# Altium schematic symbol library MCU_NXP_Kinetis.SchLib: 155 symbols (part 1 of 5)
Pins are listed as number, name and electrical type; pins without a type are passive.

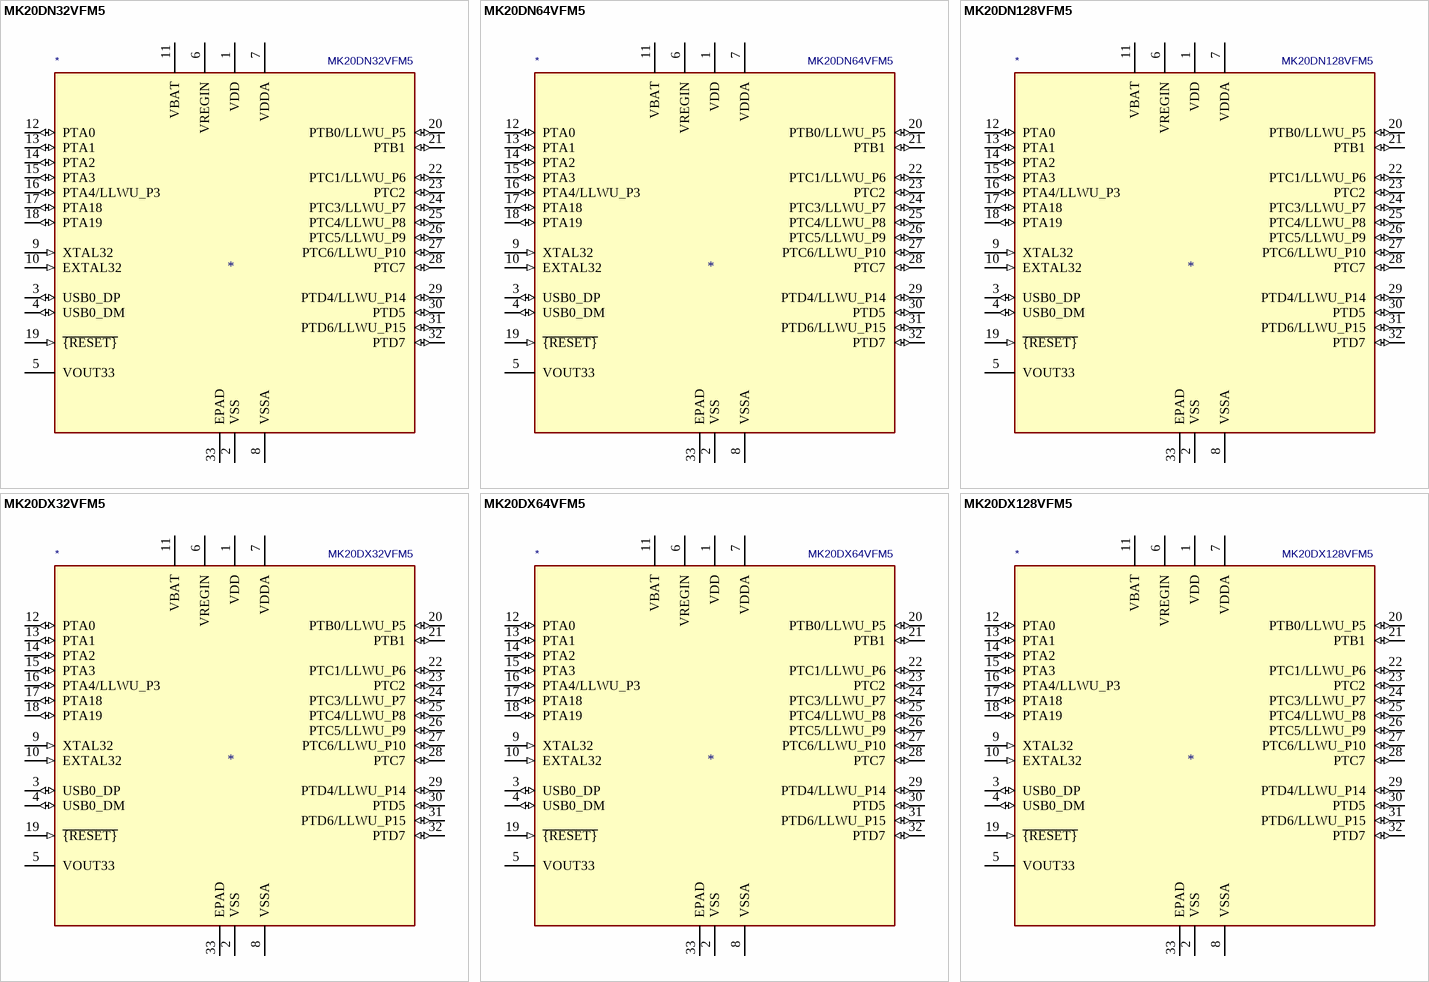
[diagram p0: symbols MK20DN32VFM5 to MK20DX128VFM5]

## MK20DN32VFM5
designator *  value MK20DN32VFM5
ki_keywords: Kinetis KL27 ARM Cortex M4; ki_description: Kinetis K20 series, 50-MHz/32-bit ARM Cortex-M4, 32 kB flash, 8 kB SRAM, USB FS Device/OTG, QFN-32; ki_fp_filters: QFN*5x5mm*P0.5mm*; Footprint: Package_DFN_QFN:QFN-32-1EP_5x5mm_P0.5mm_EP3.45x3.45mm; Supplier: http://www.nxp.com/docs/en/data-sheet/K20P32M50SF0.pdf
footprint QFN-32-1EP_5x5mm_P0.5mm_EP3.45x3.45mm
pins: 1 VDD (power), 2 VSS (power), 3 USB0_DP (io), 4 USB0_DM (io), 5 VOUT33 (power), 6 VREGIN (power), 7 VDDA (power), 8 VSSA (power), 9 XTAL32 (in), 10 EXTAL32 (in), 11 VBAT (power), 12 PTA0 (io), 13 PTA1 (io), 14 PTA2 (io), 15 PTA3 (io), 16 PTA4/LLWU_P3 (io), 17 PTA18 (io), 18 PTA19 (io), 19 ~{{RESET}} (in), 20 PTB0/LLWU_P5 (io), 21 PTB1 (io), 22 PTC1/LLWU_P6 (io), 23 PTC2 (io), 24 PTC3/LLWU_P7 (io), 25 PTC4/LLWU_P8 (io), 26 PTC5/LLWU_P9 (io), 27 PTC6/LLWU_P10 (io), 28 PTC7 (io), 29 PTD4/LLWU_P14 (io), 30 PTD5 (io), 31 PTD6/LLWU_P15 (io), 32 PTD7 (io), 33 EPAD (power)

## MK20DN64VFM5
designator *  value MK20DN64VFM5
ki_keywords: Kinetis KL27 ARM Cortex M4; ki_description: Kinetis K20 series, 50-MHz/32-bit ARM Cortex-M4, 64 kB flash, 16 kB SRAM, USB FS Device/OTG, QFN-32; ki_fp_filters: QFN*5x5mm*P0.5mm*; Footprint: Package_DFN_QFN:QFN-32-1EP_5x5mm_P0.5mm_EP3.45x3.45mm; Supplier: http://www.nxp.com/docs/en/data-sheet/K20P32M50SF0.pdf
footprint QFN-32-1EP_5x5mm_P0.5mm_EP3.45x3.45mm
pins: 1 VDD (power), 2 VSS (power), 3 USB0_DP (io), 4 USB0_DM (io), 5 VOUT33 (power), 6 VREGIN (power), 7 VDDA (power), 8 VSSA (power), 9 XTAL32 (in), 10 EXTAL32 (in), 11 VBAT (power), 12 PTA0 (io), 13 PTA1 (io), 14 PTA2 (io), 15 PTA3 (io), 16 PTA4/LLWU_P3 (io), 17 PTA18 (io), 18 PTA19 (io), 19 ~{{RESET}} (in), 20 PTB0/LLWU_P5 (io), 21 PTB1 (io), 22 PTC1/LLWU_P6 (io), 23 PTC2 (io), 24 PTC3/LLWU_P7 (io), 25 PTC4/LLWU_P8 (io), 26 PTC5/LLWU_P9 (io), 27 PTC6/LLWU_P10 (io), 28 PTC7 (io), 29 PTD4/LLWU_P14 (io), 30 PTD5 (io), 31 PTD6/LLWU_P15 (io), 32 PTD7 (io), 33 EPAD (power)

## MK20DN128VFM5
designator *  value MK20DN128VFM5
ki_keywords: Kinetis KL27 ARM Cortex M4; ki_description: Kinetis K20 series, 50-MHz/32-bit ARM Cortex-M4, 128 kB flash, 32 kB SRAM, USB FS Device/OTG, QFN-32; ki_fp_filters: QFN*5x5mm*P0.5mm*; Footprint: Package_DFN_QFN:QFN-32-1EP_5x5mm_P0.5mm_EP3.45x3.45mm; Supplier: http://www.nxp.com/docs/en/data-sheet/K20P32M50SF0.pdf
footprint QFN-32-1EP_5x5mm_P0.5mm_EP3.45x3.45mm
pins: 1 VDD (power), 2 VSS (power), 3 USB0_DP (io), 4 USB0_DM (io), 5 VOUT33 (power), 6 VREGIN (power), 7 VDDA (power), 8 VSSA (power), 9 XTAL32 (in), 10 EXTAL32 (in), 11 VBAT (power), 12 PTA0 (io), 13 PTA1 (io), 14 PTA2 (io), 15 PTA3 (io), 16 PTA4/LLWU_P3 (io), 17 PTA18 (io), 18 PTA19 (io), 19 ~{{RESET}} (in), 20 PTB0/LLWU_P5 (io), 21 PTB1 (io), 22 PTC1/LLWU_P6 (io), 23 PTC2 (io), 24 PTC3/LLWU_P7 (io), 25 PTC4/LLWU_P8 (io), 26 PTC5/LLWU_P9 (io), 27 PTC6/LLWU_P10 (io), 28 PTC7 (io), 29 PTD4/LLWU_P14 (io), 30 PTD5 (io), 31 PTD6/LLWU_P15 (io), 32 PTD7 (io), 33 EPAD (power)

## MK20DX32VFM5
designator *  value MK20DX32VFM5
ki_keywords: Kinetis KL27 ARM Cortex M4; ki_description: Kinetis K20 series, 50-MHz/32-bit ARM Cortex-M4, 32 kB flash/32 kB FlexNVM, 8 kB SRAM/2 kB FlexRAM, USB FS Device/OTG, QFN-32; ki_fp_filters: QFN*5x5mm*P0.5mm*; Footprint: Package_DFN_QFN:QFN-32-1EP_5x5mm_P0.5mm_EP3.45x3.45mm; Supplier: http://www.nxp.com/docs/en/data-sheet/K20P32M50SF0.pdf
footprint QFN-32-1EP_5x5mm_P0.5mm_EP3.45x3.45mm
pins: 1 VDD (power), 2 VSS (power), 3 USB0_DP (io), 4 USB0_DM (io), 5 VOUT33 (power), 6 VREGIN (power), 7 VDDA (power), 8 VSSA (power), 9 XTAL32 (in), 10 EXTAL32 (in), 11 VBAT (power), 12 PTA0 (io), 13 PTA1 (io), 14 PTA2 (io), 15 PTA3 (io), 16 PTA4/LLWU_P3 (io), 17 PTA18 (io), 18 PTA19 (io), 19 ~{{RESET}} (in), 20 PTB0/LLWU_P5 (io), 21 PTB1 (io), 22 PTC1/LLWU_P6 (io), 23 PTC2 (io), 24 PTC3/LLWU_P7 (io), 25 PTC4/LLWU_P8 (io), 26 PTC5/LLWU_P9 (io), 27 PTC6/LLWU_P10 (io), 28 PTC7 (io), 29 PTD4/LLWU_P14 (io), 30 PTD5 (io), 31 PTD6/LLWU_P15 (io), 32 PTD7 (io), 33 EPAD (power)

## MK20DX64VFM5
designator *  value MK20DX64VFM5
ki_keywords: Kinetis KL27 ARM Cortex M4; ki_description: Kinetis K20 series, 50-MHz/32-bit ARM Cortex-M4, 64 kB flash/32 kB FlexNVM, 16 kB SRAM/2 kB FlexRAM, USB FS Device/OTG, QFN-32; ki_fp_filters: QFN*5x5mm*P0.5mm*; Footprint: Package_DFN_QFN:QFN-32-1EP_5x5mm_P0.5mm_EP3.45x3.45mm; Supplier: http://www.nxp.com/docs/en/data-sheet/K20P32M50SF0.pdf
footprint QFN-32-1EP_5x5mm_P0.5mm_EP3.45x3.45mm
pins: 1 VDD (power), 2 VSS (power), 3 USB0_DP (io), 4 USB0_DM (io), 5 VOUT33 (power), 6 VREGIN (power), 7 VDDA (power), 8 VSSA (power), 9 XTAL32 (in), 10 EXTAL32 (in), 11 VBAT (power), 12 PTA0 (io), 13 PTA1 (io), 14 PTA2 (io), 15 PTA3 (io), 16 PTA4/LLWU_P3 (io), 17 PTA18 (io), 18 PTA19 (io), 19 ~{{RESET}} (in), 20 PTB0/LLWU_P5 (io), 21 PTB1 (io), 22 PTC1/LLWU_P6 (io), 23 PTC2 (io), 24 PTC3/LLWU_P7 (io), 25 PTC4/LLWU_P8 (io), 26 PTC5/LLWU_P9 (io), 27 PTC6/LLWU_P10 (io), 28 PTC7 (io), 29 PTD4/LLWU_P14 (io), 30 PTD5 (io), 31 PTD6/LLWU_P15 (io), 32 PTD7 (io), 33 EPAD (power)

## MK20DX128VFM5
designator *  value MK20DX128VFM5
ki_keywords: Kinetis KL27 ARM Cortex M4; ki_description: Kinetis K20 series, 50-MHz/32-bit ARM Cortex-M4, 128 kB flash/32 kB FlexNVM, 32 kB SRAM/2 kB FlexRAM, USB FS Device/OTG, QFN-32; ki_fp_filters: QFN*5x5mm*P0.5mm*; Footprint: Package_DFN_QFN:QFN-32-1EP_5x5mm_P0.5mm_EP3.45x3.45mm; Supplier: http://www.nxp.com/docs/en/data-sheet/K20P32M50SF0.pdf
footprint QFN-32-1EP_5x5mm_P0.5mm_EP3.45x3.45mm
pins: 1 VDD (power), 2 VSS (power), 3 USB0_DP (io), 4 USB0_DM (io), 5 VOUT33 (power), 6 VREGIN (power), 7 VDDA (power), 8 VSSA (power), 9 XTAL32 (in), 10 EXTAL32 (in), 11 VBAT (power), 12 PTA0 (io), 13 PTA1 (io), 14 PTA2 (io), 15 PTA3 (io), 16 PTA4/LLWU_P3 (io), 17 PTA18 (io), 18 PTA19 (io), 19 ~{{RESET}} (in), 20 PTB0/LLWU_P5 (io), 21 PTB1 (io), 22 PTC1/LLWU_P6 (io), 23 PTC2 (io), 24 PTC3/LLWU_P7 (io), 25 PTC4/LLWU_P8 (io), 26 PTC5/LLWU_P9 (io), 27 PTC6/LLWU_P10 (io), 28 PTC7 (io), 29 PTD4/LLWU_P14 (io), 30 PTD5 (io), 31 PTD6/LLWU_P15 (io), 32 PTD7 (io), 33 EPAD (power)

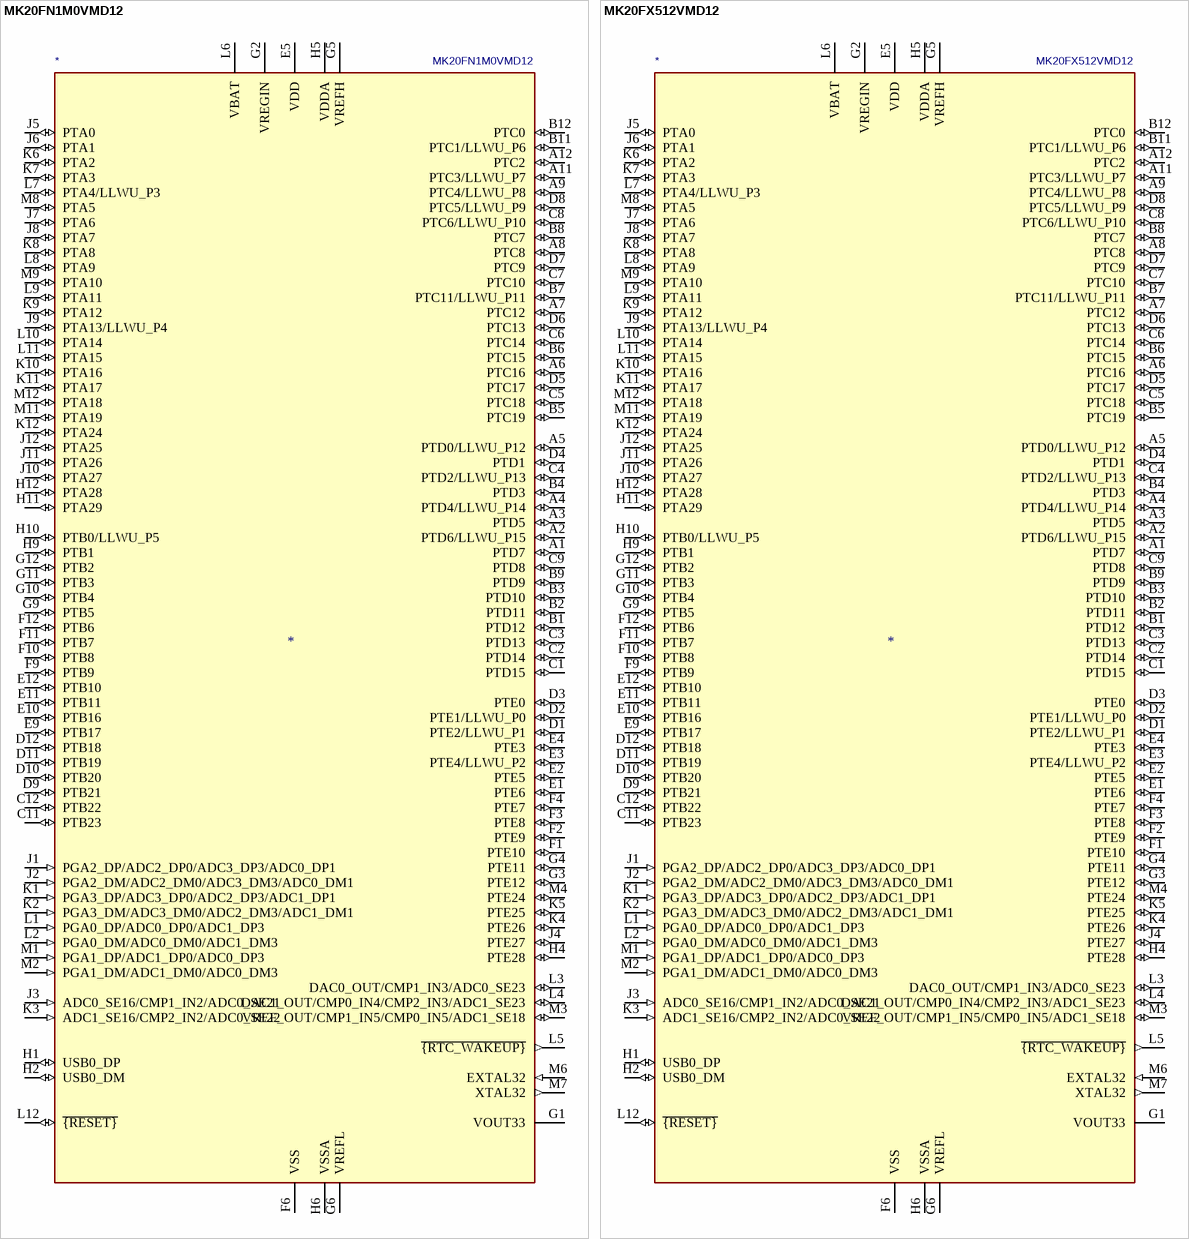
[diagram p1: symbols MK20FN1M0VMD12 to MK20FX512VMD12]

## MK20FN1M0VMD12
designator *  value MK20FN1M0VMD12
ki_keywords: Kinetis K20 ARM Cortex M4; ki_description: Kinetis K20 series, 120-MHz/32-bit ARM Cortex-M4, 1024 kB flash, 128 kB SRAM, USB HS+FS Device/OTG, MAPBGA-144; ki_fp_filters: BGA*13.0x13.0mm*Layout12x12*P1.0mm*; Footprint: Package_BGA:BGA-144_13.0x13.0mm_Layout12x12_P1.0mm; Supplier: https://www.nxp.com/docs/en/data-sheet/K20P144M120SF3.pdf
footprint BGA-144_13.0x13.0mm_Layout12x12_P1.0mm
pins: A1 PTD7 (io), A2 PTD6/LLWU_P15 (io), A3 PTD5 (io), A4 PTD4/LLWU_P14 (io), A5 PTD0/LLWU_P12 (io), A6 PTC16 (io), A7 PTC12 (io), A8 PTC8 (io), A9 PTC4/LLWU_P8 (io), A10 NC (in) hidden, A11 PTC3/LLWU_P7 (io), A12 PTC2 (io), B1 PTD12 (io), B2 PTD11 (io), B3 PTD10 (io), B4 PTD3 (io), B5 PTC19 (io), B6 PTC15 (io), B7 PTC11/LLWU_P11 (io), B8 PTC7 (io), B9 PTD9 (io), B10 NC (in) hidden, B11 PTC1/LLWU_P6 (io), B12 PTC0 (io), C1 PTD15 (io), C2 PTD14 (io), C3 PTD13 (io), C4 PTD2/LLWU_P13 (io), C5 PTC18 (io), C6 PTC14 (io), C7 PTC10 (io), C8 PTC6/LLWU_P10 (io), C9 PTD8 (io), C10 NC (in) hidden, C11 PTB23 (io), C12 PTB22 (io), D1 PTE2/LLWU_P1 (io), D2 PTE1/LLWU_P0 (io), D3 PTE0 (io), D4 PTD1 (io), D5 PTC17 (io), D6 PTC13 (io), D7 PTC9 (io), D8 PTC5/LLWU_P9 (io), D9 PTB21 (io), D10 PTB20 (io), D11 PTB19 (io), D12 PTB18 (io), E1 PTE6 (io), E2 PTE5 (io), E3 PTE4/LLWU_P2 (io), E4 PTE3 (io), E5 VDD (power), E6 VDD hidden, E7 VDD hidden, E8 VDD hidden, E9 PTB17 (io), E10 PTB16 (io), E11 PTB11 (io), E12 PTB10 (io), F1 PTE10 (io), F2 PTE9 (io), F3 PTE8 (io), F4 PTE7 (io), F5 VDD hidden, F6 VSS (power), F7 VSS hidden, F8 VDD hidden, F9 PTB9 (io), F10 PTB8 (io), F11 PTB7 (io), F12 PTB6 (io), G1 VOUT33 (power), G2 VREGIN (power), G3 PTE12 (io), G4 PTE11 (io), G5 VREFH (power), G6 VREFL (power), G7 VSS hidden, G8 VSS hidden, G9 PTB5 (io), G10 PTB4 (io), G11 PTB3 (io), G12 PTB2 (io), H1 USB0_DP (io), H2 USB0_DM (io), H3 VSS hidden, H4 PTE28 (io), H5 VDDA (power), H6 VSSA (power), H7 VSS hidden, H8 VSS hidden, H9 PTB1 (io), H10 PTB0/LLWU_P5 (io), H11 PTA29 (io), H12 PTA28 (io), J1 PGA2_DP/ADC2_DP0/ADC3_DP3/ADC0_DP1 (in), J2 PGA2_DM/ADC2_DM0/ADC3_DM3/ADC0_DM1 (in), J3 ADC0_SE16/CMP1_IN2/ADC0_SE21 (in), J4 PTE27 (io), J5 PTA0 (io), J6 PTA1 (io), J7 PTA6 (io), J8 PTA7 (io), J9 PTA13/LLWU_P4 (io), J10 PTA27 (io), J11 PTA26 (io), J12 PTA25 (io), K1 PGA3_DP/ADC3_DP0/ADC2_DP3/ADC1_DP1 (in), K2 PGA3_DM/ADC3_DM0/ADC2_DM3/ADC1_DM1 (in), K3 ADC1_SE16/CMP2_IN2/ADC0_SE22 (in), K4 PTE26 (io), K5 PTE25 (io), K6 PTA2 (io), K7 PTA3 (io), K8 PTA8 (io), K9 PTA12 (io), K10 PTA16 (io), K11 PTA17 (io), K12 PTA24 (io), L1 PGA0_DP/ADC0_DP0/ADC1_DP3 (in), L2 PGA0_DM/ADC0_DM0/ADC1_DM3 (in), L3 DAC0_OUT/CMP1_IN3/ADC0_SE23 (io), L4 DAC1_OUT/CMP0_IN4/CMP2_IN3/ADC1_SE23 (io), L5 ~{{RTC_WAKEUP}} (out), L6 VBAT (power), L7 PTA4/LLWU_P3 (io), L8 PTA9 (io), L9 PTA11 (io), L10 PTA14 (io), L11 PTA15 (io), L12 ~{{RESET}} (io), M1 PGA1_DP/ADC1_DP0/ADC0_DP3 (in), M2 PGA1_DM/ADC1_DM0/ADC0_DM3 (in), M3 VREF_OUT/CMP1_IN5/CMP0_IN5/ADC1_SE18 (io), M4 PTE24 (io), M5 NC (in) hidden, M6 EXTAL32 (in), M7 XTAL32 (out), M8 PTA5 (io), M9 PTA10 (io), M10 VSS hidden, M11 PTA19 (io), M12 PTA18 (io)

## MK20FX512VMD12
designator *  value MK20FX512VMD12
ki_keywords: Kinetis K20 ARM Cortex M4; ki_description: Kinetis K20 series, 120-MHz/32-bit ARM Cortex-M4, 512 kB flash, 512 kB FlexNVM, 128 kB SRAM, 16 kB FlexRAM, USB HS+FS Device/OTG, MAPBGA-144; ki_fp_filters: BGA*13.0x13.0mm*Layout12x12*P1.0mm*; Footprint: Package_BGA:BGA-144_13.0x13.0mm_Layout12x12_P1.0mm; Supplier: https://www.nxp.com/docs/en/data-sheet/K20P144M120SF3.pdf
footprint BGA-144_13.0x13.0mm_Layout12x12_P1.0mm
pins: A1 PTD7 (io), A2 PTD6/LLWU_P15 (io), A3 PTD5 (io), A4 PTD4/LLWU_P14 (io), A5 PTD0/LLWU_P12 (io), A6 PTC16 (io), A7 PTC12 (io), A8 PTC8 (io), A9 PTC4/LLWU_P8 (io), A10 NC (in) hidden, A11 PTC3/LLWU_P7 (io), A12 PTC2 (io), B1 PTD12 (io), B2 PTD11 (io), B3 PTD10 (io), B4 PTD3 (io), B5 PTC19 (io), B6 PTC15 (io), B7 PTC11/LLWU_P11 (io), B8 PTC7 (io), B9 PTD9 (io), B10 NC (in) hidden, B11 PTC1/LLWU_P6 (io), B12 PTC0 (io), C1 PTD15 (io), C2 PTD14 (io), C3 PTD13 (io), C4 PTD2/LLWU_P13 (io), C5 PTC18 (io), C6 PTC14 (io), C7 PTC10 (io), C8 PTC6/LLWU_P10 (io), C9 PTD8 (io), C10 NC (in) hidden, C11 PTB23 (io), C12 PTB22 (io), D1 PTE2/LLWU_P1 (io), D2 PTE1/LLWU_P0 (io), D3 PTE0 (io), D4 PTD1 (io), D5 PTC17 (io), D6 PTC13 (io), D7 PTC9 (io), D8 PTC5/LLWU_P9 (io), D9 PTB21 (io), D10 PTB20 (io), D11 PTB19 (io), D12 PTB18 (io), E1 PTE6 (io), E2 PTE5 (io), E3 PTE4/LLWU_P2 (io), E4 PTE3 (io), E5 VDD (power), E6 VDD hidden, E7 VDD hidden, E8 VDD hidden, E9 PTB17 (io), E10 PTB16 (io), E11 PTB11 (io), E12 PTB10 (io), F1 PTE10 (io), F2 PTE9 (io), F3 PTE8 (io), F4 PTE7 (io), F5 VDD hidden, F6 VSS (power), F7 VSS hidden, F8 VDD hidden, F9 PTB9 (io), F10 PTB8 (io), F11 PTB7 (io), F12 PTB6 (io), G1 VOUT33 (power), G2 VREGIN (power), G3 PTE12 (io), G4 PTE11 (io), G5 VREFH (power), G6 VREFL (power), G7 VSS hidden, G8 VSS hidden, G9 PTB5 (io), G10 PTB4 (io), G11 PTB3 (io), G12 PTB2 (io), H1 USB0_DP (io), H2 USB0_DM (io), H3 VSS hidden, H4 PTE28 (io), H5 VDDA (power), H6 VSSA (power), H7 VSS hidden, H8 VSS hidden, H9 PTB1 (io), H10 PTB0/LLWU_P5 (io), H11 PTA29 (io), H12 PTA28 (io), J1 PGA2_DP/ADC2_DP0/ADC3_DP3/ADC0_DP1 (in), J2 PGA2_DM/ADC2_DM0/ADC3_DM3/ADC0_DM1 (in), J3 ADC0_SE16/CMP1_IN2/ADC0_SE21 (in), J4 PTE27 (io), J5 PTA0 (io), J6 PTA1 (io), J7 PTA6 (io), J8 PTA7 (io), J9 PTA13/LLWU_P4 (io), J10 PTA27 (io), J11 PTA26 (io), J12 PTA25 (io), K1 PGA3_DP/ADC3_DP0/ADC2_DP3/ADC1_DP1 (in), K2 PGA3_DM/ADC3_DM0/ADC2_DM3/ADC1_DM1 (in), K3 ADC1_SE16/CMP2_IN2/ADC0_SE22 (in), K4 PTE26 (io), K5 PTE25 (io), K6 PTA2 (io), K7 PTA3 (io), K8 PTA8 (io), K9 PTA12 (io), K10 PTA16 (io), K11 PTA17 (io), K12 PTA24 (io), L1 PGA0_DP/ADC0_DP0/ADC1_DP3 (in), L2 PGA0_DM/ADC0_DM0/ADC1_DM3 (in), L3 DAC0_OUT/CMP1_IN3/ADC0_SE23 (io), L4 DAC1_OUT/CMP0_IN4/CMP2_IN3/ADC1_SE23 (io), L5 ~{{RTC_WAKEUP}} (out), L6 VBAT (power), L7 PTA4/LLWU_P3 (io), L8 PTA9 (io), L9 PTA11 (io), L10 PTA14 (io), L11 PTA15 (io), L12 ~{{RESET}} (io), M1 PGA1_DP/ADC1_DP0/ADC0_DP3 (in), M2 PGA1_DM/ADC1_DM0/ADC0_DM3 (in), M3 VREF_OUT/CMP1_IN5/CMP0_IN5/ADC1_SE18 (io), M4 PTE24 (io), M5 NC (in) hidden, M6 EXTAL32 (in), M7 XTAL32 (out), M8 PTA5 (io), M9 PTA10 (io), M10 VSS hidden, M11 PTA19 (io), M12 PTA18 (io)

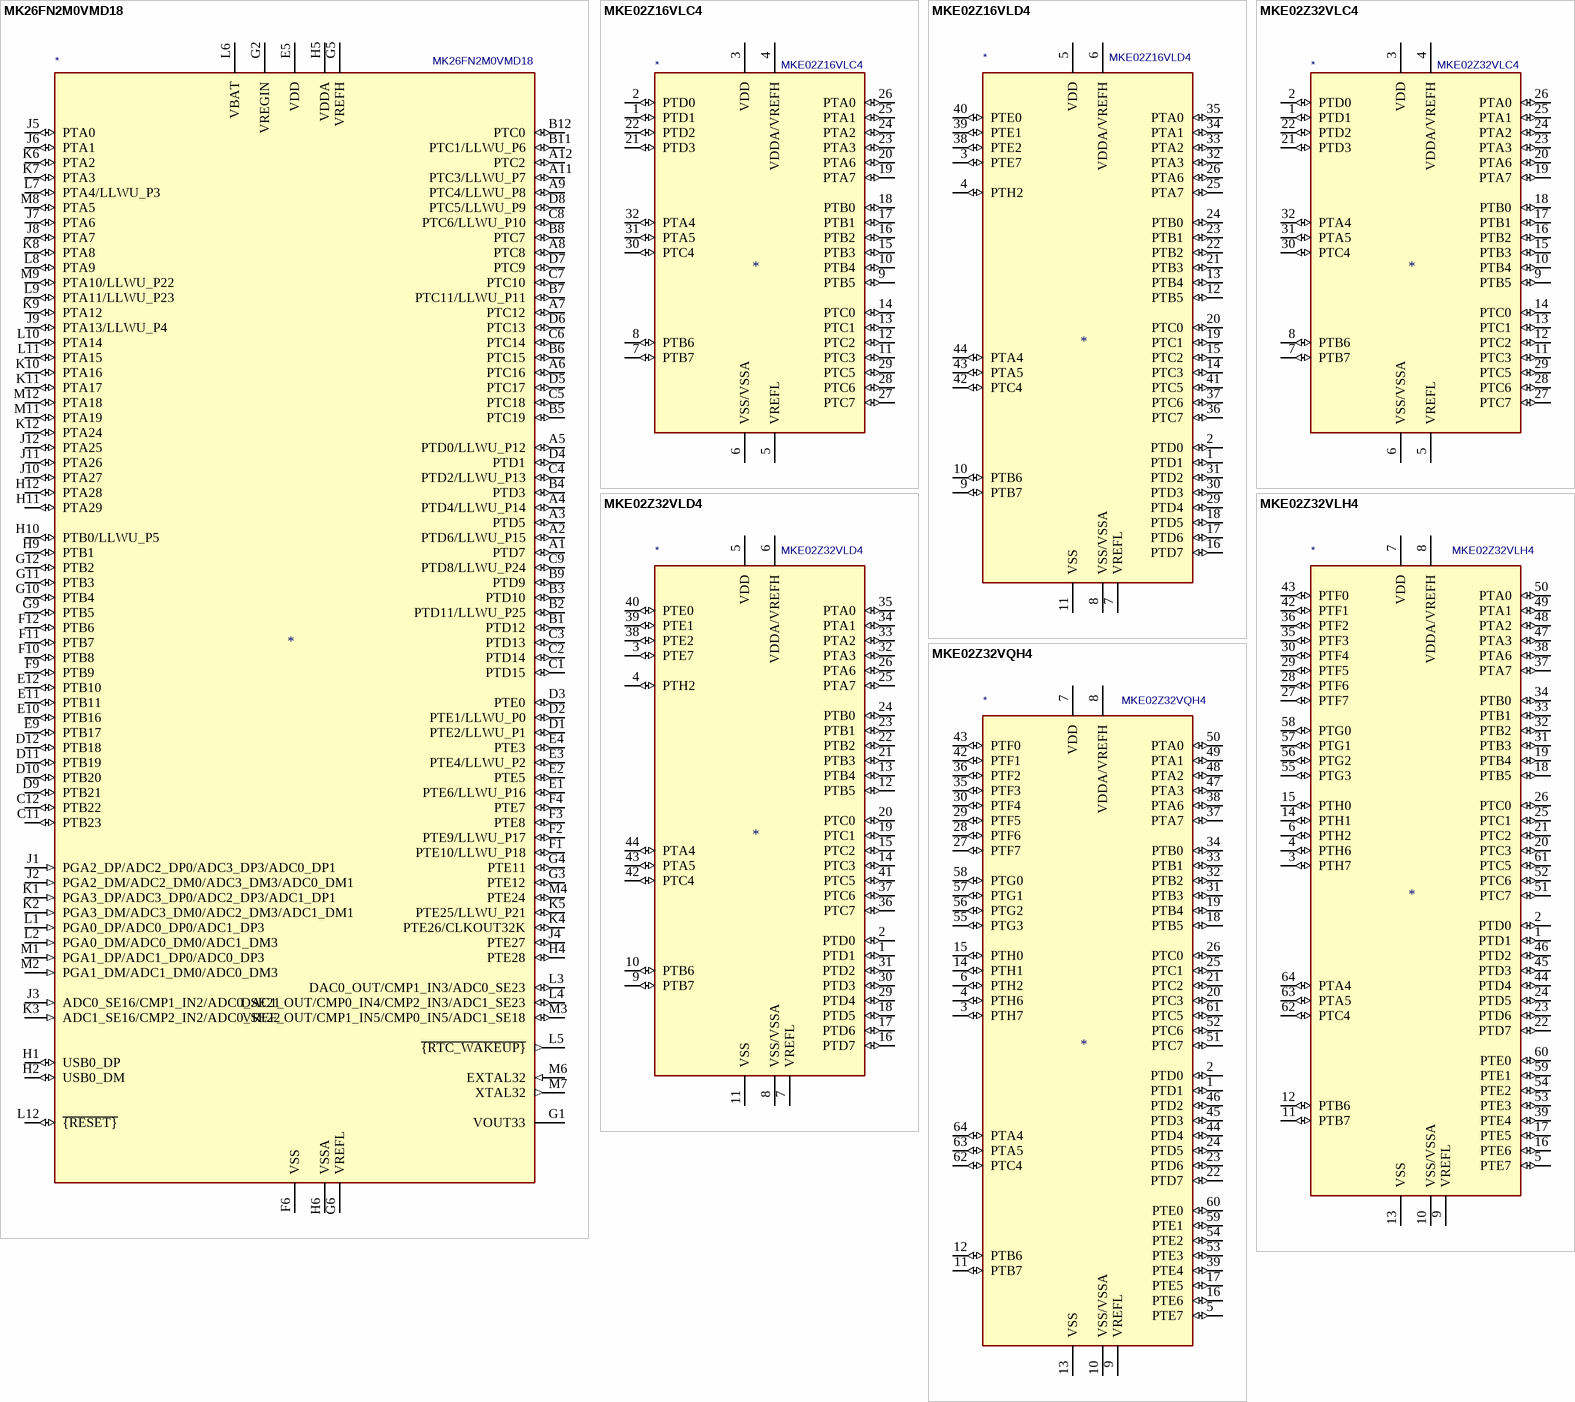
[diagram p2: symbols MK26FN2M0VMD18 to MKE02Z32VQH4]

## MK26FN2M0VMD18
designator *  value MK26FN2M0VMD18
ki_keywords: Kinetis K26 ARM Cortex M4; ki_description: Kinetis K26 series, 180-MHz/32-bit ARM Cortex-M4, 2048 kB flash, 256 kB SRAM, USB HS+FS Device/OTG, MAPBGA-144; ki_fp_filters: BGA*13.0x13.0mm*Layout12x12*P1.0mm*; Footprint: Package_BGA:BGA-144_13.0x13.0mm_Layout12x12_P1.0mm; Supplier: https://www.nxp.com/docs/en/data-sheet/K26P169M180SF5.pdf
footprint BGA-144_13.0x13.0mm_Layout12x12_P1.0mm
pins: A1 PTD7 (io), A2 PTD6/LLWU_P15 (io), A3 PTD5 (io), A4 PTD4/LLWU_P14 (io), A5 PTD0/LLWU_P12 (io), A6 PTC16 (io), A7 PTC12 (io), A8 PTC8 (io), A9 PTC4/LLWU_P8 (io), A10 NC (in) hidden, A11 PTC3/LLWU_P7 (io), A12 PTC2 (io), B1 PTD12 (io), B2 PTD11/LLWU_P25 (io), B3 PTD10 (io), B4 PTD3 (io), B5 PTC19 (io), B6 PTC15 (io), B7 PTC11/LLWU_P11 (io), B8 PTC7 (io), B9 PTD9 (io), B10 NC (in) hidden, B11 PTC1/LLWU_P6 (io), B12 PTC0 (io), C1 PTD15 (io), C2 PTD14 (io), C3 PTD13 (io), C4 PTD2/LLWU_P13 (io), C5 PTC18 (io), C6 PTC14 (io), C7 PTC10 (io), C8 PTC6/LLWU_P10 (io), C9 PTD8/LLWU_P24 (io), C10 NC (in) hidden, C11 PTB23 (io), C12 PTB22 (io), D1 PTE2/LLWU_P1 (io), D2 PTE1/LLWU_P0 (io), D3 PTE0 (io), D4 PTD1 (io), D5 PTC17 (io), D6 PTC13 (io), D7 PTC9 (io), D8 PTC5/LLWU_P9 (io), D9 PTB21 (io), D10 PTB20 (io), D11 PTB19 (io), D12 PTB18 (io), E1 PTE6/LLWU_P16 (io), E2 PTE5 (io), E3 PTE4/LLWU_P2 (io), E4 PTE3 (io), E5 VDD (power), E6 VDD hidden, E7 VDD hidden, E8 VDD hidden, E9 PTB17 (io), E10 PTB16 (io), E11 PTB11 (io), E12 PTB10 (io), F1 PTE10/LLWU_P18 (io), F2 PTE9/LLWU_P17 (io), F3 PTE8 (io), F4 PTE7 (io), F5 VDD hidden, F6 VSS (power), F7 VSS hidden, F8 VDD hidden, F9 PTB9 (io), F10 PTB8 (io), F11 PTB7 (io), F12 PTB6 (io), G1 VOUT33 (power), G2 VREGIN (power), G3 PTE12 (io), G4 PTE11 (io), G5 VREFH (power), G6 VREFL (power), G7 VSS hidden, G8 VSS hidden, G9 PTB5 (io), G10 PTB4 (io), G11 PTB3 (io), G12 PTB2 (io), H1 USB0_DP (io), H2 USB0_DM (io), H3 VSS hidden, H4 PTE28 (io), H5 VDDA (power), H6 VSSA (power), H7 VSS hidden, H8 VSS hidden, H9 PTB1 (io), H10 PTB0/LLWU_P5 (io), H11 PTA29 (io), H12 PTA28 (io), J1 PGA2_DP/ADC2_DP0/ADC3_DP3/ADC0_DP1 (in), J2 PGA2_DM/ADC2_DM0/ADC3_DM3/ADC0_DM1 (in), J3 ADC0_SE16/CMP1_IN2/ADC0_SE21 (in), J4 PTE27 (io), J5 PTA0 (io), J6 PTA1 (io), J7 PTA6 (io), J8 PTA7 (io), J9 PTA13/LLWU_P4 (io), J10 PTA27 (io), J11 PTA26 (io), J12 PTA25 (io), K1 PGA3_DP/ADC3_DP0/ADC2_DP3/ADC1_DP1 (in), K2 PGA3_DM/ADC3_DM0/ADC2_DM3/ADC1_DM1 (in), K3 ADC1_SE16/CMP2_IN2/ADC0_SE22 (in), K4 PTE26/CLKOUT32K (io), K5 PTE25/LLWU_P21 (io), K6 PTA2 (io), K7 PTA3 (io), K8 PTA8 (io), K9 PTA12 (io), K10 PTA16 (io), K11 PTA17 (io), K12 PTA24 (io), L1 PGA0_DP/ADC0_DP0/ADC1_DP3 (in), L2 PGA0_DM/ADC0_DM0/ADC1_DM3 (in), L3 DAC0_OUT/CMP1_IN3/ADC0_SE23 (io), L4 DAC1_OUT/CMP0_IN4/CMP2_IN3/ADC1_SE23 (io), L5 ~{{RTC_WAKEUP}} (out), L6 VBAT (power), L7 PTA4/LLWU_P3 (io), L8 PTA9 (io), L9 PTA11/LLWU_P23 (io), L10 PTA14 (io), L11 PTA15 (io), L12 ~{{RESET}} (io), M1 PGA1_DP/ADC1_DP0/ADC0_DP3 (in), M2 PGA1_DM/ADC1_DM0/ADC0_DM3 (in), M3 VREF_OUT/CMP1_IN5/CMP0_IN5/ADC1_SE18 (io), M4 PTE24 (io), M5 NC (in) hidden, M6 EXTAL32 (in), M7 XTAL32 (out), M8 PTA5 (io), M9 PTA10/LLWU_P22 (io), M10 VSS hidden, M11 PTA19 (io), M12 PTA18 (io)

## MKE02Z16VLC4
designator *  value MKE02Z16VLC4
ki_keywords: NXP Kinetis Microcontroller; ki_description: 40 MHz, Entry-Level, High-Robustness, ESD/EMC performance Microcontroller, Cortex-M0+ core, 16kB Flash, 2kB RAM, LQFP-32; ki_fp_filters: LQFP*7x7mm*P0.8mm*; Footprint: Package_QFP:LQFP-32_7x7mm_P0.8mm; Supplier: http://cache.nxp.com/files/microcontrollers/doc/ref_manual/MKE02P64M40SF0RM.pdf
footprint LQFP-32_7x7mm_P0.8mm
pins: 1 PTD1 (io), 2 PTD0 (io), 3 VDD (power), 4 VDDA/VREFH (power), 5 VREFL (power), 6 VSS/VSSA (power), 7 PTB7 (io), 8 PTB6 (io), 9 PTB5 (io), 10 PTB4 (io), 11 PTC3 (io), 12 PTC2 (io), 13 PTC1 (io), 14 PTC0 (io), 15 PTB3 (io), 16 PTB2 (io), 17 PTB1 (io), 18 PTB0 (io), 19 PTA7 (io), 20 PTA6 (io), 21 PTD3 (io), 22 PTD2 (io), 23 PTA3 (io), 24 PTA2 (io), 25 PTA1 (io), 26 PTA0 (io), 27 PTC7 (io), 28 PTC6 (io), 29 PTC5 (io), 30 PTC4 (io), 31 PTA5 (io), 32 PTA4 (io)

## MKE02Z16VLD4
designator *  value MKE02Z16VLD4
ki_keywords: NXP Kinetis Microcontroller; ki_description: 40 MHz, Entry-Level, High-Robustness, ESD/EMC performance Microcontroller, Cortex-M0+ core, 16kB Flash, 2kB RAM, LQFP-44; ki_fp_filters: LQFP*10x10mm*P0.8mm*; Footprint: Package_QFP:LQFP-44_10x10mm_P0.8mm; Supplier: http://cache.nxp.com/files/microcontrollers/doc/ref_manual/MKE02P64M40SF0RM.pdf
footprint LQFP-44_10x10mm_P0.8mm
pins: 1 PTD1 (io), 2 PTD0 (io), 3 PTE7 (io), 4 PTH2 (io), 5 VDD (power), 6 VDDA/VREFH (power), 7 VREFL (power), 8 VSS/VSSA (power), 9 PTB7 (io), 10 PTB6 (io), 11 VSS (power), 12 PTB5 (io), 13 PTB4 (io), 14 PTC3 (io), 15 PTC2 (io), 16 PTD7 (io), 17 PTD6 (io), 18 PTD5 (io), 19 PTC1 (io), 20 PTC0 (io), 21 PTB3 (io), 22 PTB2 (io), 23 PTB1 (io), 24 PTB0 (io), 25 PTA7 (io), 26 PTA6 (io), 27 VSS hidden, 28 VDD hidden, 29 PTD4 (io), 30 PTD3 (io), 31 PTD2 (io), 32 PTA3 (io), 33 PTA2 (io), 34 PTA1 (io), 35 PTA0 (io), 36 PTC7 (io), 37 PTC6 (io), 38 PTE2 (io), 39 PTE1 (io), 40 PTE0 (io), 41 PTC5 (io), 42 PTC4 (io), 43 PTA5 (io), 44 PTA4 (io)

## MKE02Z32VLC4
designator *  value MKE02Z32VLC4
ki_keywords: NXP Kinetis Microcontroller; ki_description: 40 MHz, Entry-Level, High-Robustness, ESD/EMC performance Microcontroller, Cortex-M0+ core, 32kB Flash, 4kB RAM, LQFP-32; ki_fp_filters: LQFP*7x7mm*P0.8mm*; Footprint: Package_QFP:LQFP-32_7x7mm_P0.8mm; Supplier: http://cache.nxp.com/files/microcontrollers/doc/ref_manual/MKE02P64M40SF0RM.pdf
footprint LQFP-32_7x7mm_P0.8mm
pins: 1 PTD1 (io), 2 PTD0 (io), 3 VDD (power), 4 VDDA/VREFH (power), 5 VREFL (power), 6 VSS/VSSA (power), 7 PTB7 (io), 8 PTB6 (io), 9 PTB5 (io), 10 PTB4 (io), 11 PTC3 (io), 12 PTC2 (io), 13 PTC1 (io), 14 PTC0 (io), 15 PTB3 (io), 16 PTB2 (io), 17 PTB1 (io), 18 PTB0 (io), 19 PTA7 (io), 20 PTA6 (io), 21 PTD3 (io), 22 PTD2 (io), 23 PTA3 (io), 24 PTA2 (io), 25 PTA1 (io), 26 PTA0 (io), 27 PTC7 (io), 28 PTC6 (io), 29 PTC5 (io), 30 PTC4 (io), 31 PTA5 (io), 32 PTA4 (io)

## MKE02Z32VLD4
designator *  value MKE02Z32VLD4
ki_keywords: NXP Kinetis Microcontroller; ki_description: 40 MHz, Entry-Level, High-Robustness, ESD/EMC performance Microcontroller, Cortex-M0+ core, 32kB Flash, 4kB RAM, LQFP-44; ki_fp_filters: LQFP*10x10mm*P0.8mm*; Footprint: Package_QFP:LQFP-44_10x10mm_P0.8mm; Supplier: http://cache.nxp.com/files/microcontrollers/doc/ref_manual/MKE02P64M40SF0RM.pdf
footprint LQFP-44_10x10mm_P0.8mm
pins: 1 PTD1 (io), 2 PTD0 (io), 3 PTE7 (io), 4 PTH2 (io), 5 VDD (power), 6 VDDA/VREFH (power), 7 VREFL (power), 8 VSS/VSSA (power), 9 PTB7 (io), 10 PTB6 (io), 11 VSS (power), 12 PTB5 (io), 13 PTB4 (io), 14 PTC3 (io), 15 PTC2 (io), 16 PTD7 (io), 17 PTD6 (io), 18 PTD5 (io), 19 PTC1 (io), 20 PTC0 (io), 21 PTB3 (io), 22 PTB2 (io), 23 PTB1 (io), 24 PTB0 (io), 25 PTA7 (io), 26 PTA6 (io), 27 VSS hidden, 28 VDD hidden, 29 PTD4 (io), 30 PTD3 (io), 31 PTD2 (io), 32 PTA3 (io), 33 PTA2 (io), 34 PTA1 (io), 35 PTA0 (io), 36 PTC7 (io), 37 PTC6 (io), 38 PTE2 (io), 39 PTE1 (io), 40 PTE0 (io), 41 PTC5 (io), 42 PTC4 (io), 43 PTA5 (io), 44 PTA4 (io)

## MKE02Z32VLH4
designator *  value MKE02Z32VLH4
ki_keywords: NXP Kinetis Microcontroller; ki_description: 40 MHz, Entry-Level, High-Robustness, ESD/EMC performance Microcontroller, Cortex-M0+ core, 32kB Flash, 4kB RAM, LQFP-64; ki_fp_filters: LQFP*10x10mm*P0.5mm*; Footprint: Package_QFP:LQFP-64_10x10mm_P0.5mm; Supplier: http://cache.nxp.com/files/microcontrollers/doc/ref_manual/MKE02P64M40SF0RM.pdf
footprint LQFP-64_10x10mm_P0.5mm
pins: 1 PTD1 (io), 2 PTD0 (io), 3 PTH7 (io), 4 PTH6 (io), 5 PTE7 (io), 6 PTH2 (io), 7 VDD (power), 8 VDDA/VREFH (power), 9 VREFL (power), 10 VSS/VSSA (power), 11 PTB7 (io), 12 PTB6 (io), 13 VSS (power), 14 PTH1 (io), 15 PTH0 (io), 16 PTE6 (io), 17 PTE5 (io), 18 PTB5 (io), 19 PTB4 (io), 20 PTC3 (io), 21 PTC2 (io), 22 PTD7 (io), 23 PTD6 (io), 24 PTD5 (io), 25 PTC1 (io), 26 PTC0 (io), 27 PTF7 (io), 28 PTF6 (io), 29 PTF5 (io), 30 PTF4 (io), 31 PTB3 (io), 32 PTB2 (io), 33 PTB1 (io), 34 PTB0 (io), 35 PTF3 (io), 36 PTF2 (io), 37 PTA7 (io), 38 PTA6 (io), 39 PTE4 (io), 40 VSS hidden, 41 VDD hidden, 42 PTF1 (io), 43 PTF0 (io), 44 PTD4 (io), 45 PTD3 (io), 46 PTD2 (io), 47 PTA3 (io), 48 PTA2 (io), 49 PTA1 (io), 50 PTA0 (io), 51 PTC7 (io), 52 PTC6 (io), 53 PTE3 (io), 54 PTE2 (io), 55 PTG3 (io), 56 PTG2 (io), 57 PTG1 (io), 58 PTG0 (io), 59 PTE1 (io), 60 PTE0 (io), 61 PTC5 (io), 62 PTC4 (io), 63 PTA5 (io), 64 PTA4 (io)

## MKE02Z32VQH4
designator *  value MKE02Z32VQH4
ki_keywords: NXP Kinetis Microcontroller; ki_description: 40 MHz, Entry-Level, High-Robustness, ESD/EMC performance Microcontroller, Cortex-M0+ core, 32kB Flash, 4kB RAM, TQFP-64; ki_fp_filters: TQFP*14x14mm*P0.8mm*; Footprint: Package_QFP:TQFP-64_14x14mm_P0.8mm; Supplier: http://cache.nxp.com/files/microcontrollers/doc/ref_manual/MKE02P64M40SF0RM.pdf
footprint TQFP-64_14x14mm_P0.8mm
pins: 1 PTD1 (io), 2 PTD0 (io), 3 PTH7 (io), 4 PTH6 (io), 5 PTE7 (io), 6 PTH2 (io), 7 VDD (power), 8 VDDA/VREFH (power), 9 VREFL (power), 10 VSS/VSSA (power), 11 PTB7 (io), 12 PTB6 (io), 13 VSS (power), 14 PTH1 (io), 15 PTH0 (io), 16 PTE6 (io), 17 PTE5 (io), 18 PTB5 (io), 19 PTB4 (io), 20 PTC3 (io), 21 PTC2 (io), 22 PTD7 (io), 23 PTD6 (io), 24 PTD5 (io), 25 PTC1 (io), 26 PTC0 (io), 27 PTF7 (io), 28 PTF6 (io), 29 PTF5 (io), 30 PTF4 (io), 31 PTB3 (io), 32 PTB2 (io), 33 PTB1 (io), 34 PTB0 (io), 35 PTF3 (io), 36 PTF2 (io), 37 PTA7 (io), 38 PTA6 (io), 39 PTE4 (io), 40 VSS hidden, 41 VDD hidden, 42 PTF1 (io), 43 PTF0 (io), 44 PTD4 (io), 45 PTD3 (io), 46 PTD2 (io), 47 PTA3 (io), 48 PTA2 (io), 49 PTA1 (io), 50 PTA0 (io), 51 PTC7 (io), 52 PTC6 (io), 53 PTE3 (io), 54 PTE2 (io), 55 PTG3 (io), 56 PTG2 (io), 57 PTG1 (io), 58 PTG0 (io), 59 PTE1 (io), 60 PTE0 (io), 61 PTC5 (io), 62 PTC4 (io), 63 PTA5 (io), 64 PTA4 (io)

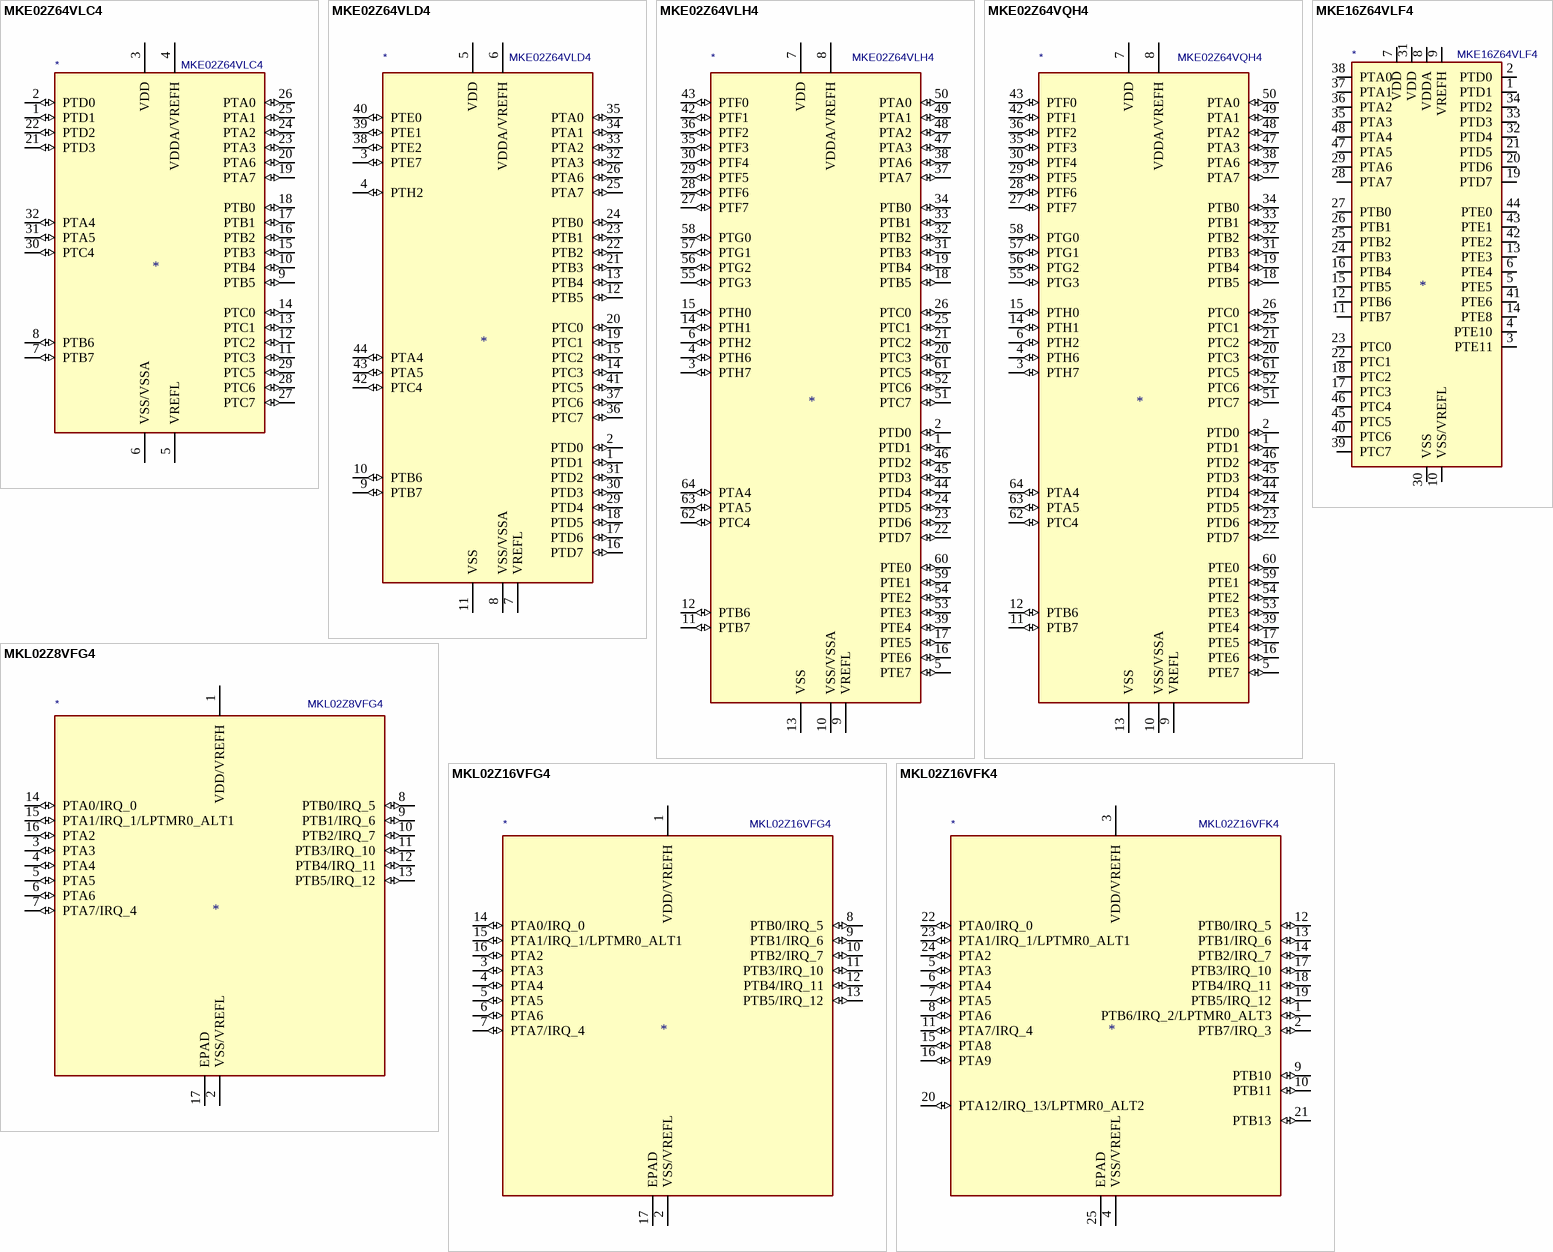
[diagram p3: symbols MKE02Z64VLC4 to MKL02Z16VFK4]

## MKE02Z64VLC4
designator *  value MKE02Z64VLC4
ki_keywords: NXP Kinetis Microcontroller; ki_description: 40 MHz, Entry-Level, High-Robustness, ESD/EMC performance Microcontroller, Cortex-M0+ core, 64kB Flash, 4kB RAM, LQFP-32; ki_fp_filters: LQFP*7x7mm*P0.8mm*; Footprint: Package_QFP:LQFP-32_7x7mm_P0.8mm; Supplier: http://cache.nxp.com/files/microcontrollers/doc/ref_manual/MKE02P64M40SF0RM.pdf
footprint LQFP-32_7x7mm_P0.8mm
pins: 1 PTD1 (io), 2 PTD0 (io), 3 VDD (power), 4 VDDA/VREFH (power), 5 VREFL (power), 6 VSS/VSSA (power), 7 PTB7 (io), 8 PTB6 (io), 9 PTB5 (io), 10 PTB4 (io), 11 PTC3 (io), 12 PTC2 (io), 13 PTC1 (io), 14 PTC0 (io), 15 PTB3 (io), 16 PTB2 (io), 17 PTB1 (io), 18 PTB0 (io), 19 PTA7 (io), 20 PTA6 (io), 21 PTD3 (io), 22 PTD2 (io), 23 PTA3 (io), 24 PTA2 (io), 25 PTA1 (io), 26 PTA0 (io), 27 PTC7 (io), 28 PTC6 (io), 29 PTC5 (io), 30 PTC4 (io), 31 PTA5 (io), 32 PTA4 (io)

## MKE02Z64VLD4
designator *  value MKE02Z64VLD4
ki_keywords: NXP Kinetis Microcontroller; ki_description: 40 MHz, Entry-Level, High-Robustness, ESD/EMC performance Microcontroller, Cortex-M0+ core, 64kB Flash, 4kB RAM, LQFP-44; ki_fp_filters: LQFP*10x10mm*P0.8mm*; Footprint: Package_QFP:LQFP-44_10x10mm_P0.8mm; Supplier: http://cache.nxp.com/files/microcontrollers/doc/ref_manual/MKE02P64M40SF0RM.pdf
footprint LQFP-44_10x10mm_P0.8mm
pins: 1 PTD1 (io), 2 PTD0 (io), 3 PTE7 (io), 4 PTH2 (io), 5 VDD (power), 6 VDDA/VREFH (power), 7 VREFL (power), 8 VSS/VSSA (power), 9 PTB7 (io), 10 PTB6 (io), 11 VSS (power), 12 PTB5 (io), 13 PTB4 (io), 14 PTC3 (io), 15 PTC2 (io), 16 PTD7 (io), 17 PTD6 (io), 18 PTD5 (io), 19 PTC1 (io), 20 PTC0 (io), 21 PTB3 (io), 22 PTB2 (io), 23 PTB1 (io), 24 PTB0 (io), 25 PTA7 (io), 26 PTA6 (io), 27 VSS hidden, 28 VDD hidden, 29 PTD4 (io), 30 PTD3 (io), 31 PTD2 (io), 32 PTA3 (io), 33 PTA2 (io), 34 PTA1 (io), 35 PTA0 (io), 36 PTC7 (io), 37 PTC6 (io), 38 PTE2 (io), 39 PTE1 (io), 40 PTE0 (io), 41 PTC5 (io), 42 PTC4 (io), 43 PTA5 (io), 44 PTA4 (io)

## MKE02Z64VLH4
designator *  value MKE02Z64VLH4
ki_keywords: NXP Kinetis Microcontroller; ki_description: 40 MHz, Entry-Level, High-Robustness, ESD/EMC performance Microcontroller, Cortex-M0+ core, 64kB Flash, 4kB RAM, LQFP-64; ki_fp_filters: LQFP*10x10mm*P0.5mm*; Footprint: Package_QFP:LQFP-64_10x10mm_P0.5mm; Supplier: http://cache.nxp.com/files/microcontrollers/doc/ref_manual/MKE02P64M40SF0RM.pdf
footprint LQFP-64_10x10mm_P0.5mm
pins: 1 PTD1 (io), 2 PTD0 (io), 3 PTH7 (io), 4 PTH6 (io), 5 PTE7 (io), 6 PTH2 (io), 7 VDD (power), 8 VDDA/VREFH (power), 9 VREFL (power), 10 VSS/VSSA (power), 11 PTB7 (io), 12 PTB6 (io), 13 VSS (power), 14 PTH1 (io), 15 PTH0 (io), 16 PTE6 (io), 17 PTE5 (io), 18 PTB5 (io), 19 PTB4 (io), 20 PTC3 (io), 21 PTC2 (io), 22 PTD7 (io), 23 PTD6 (io), 24 PTD5 (io), 25 PTC1 (io), 26 PTC0 (io), 27 PTF7 (io), 28 PTF6 (io), 29 PTF5 (io), 30 PTF4 (io), 31 PTB3 (io), 32 PTB2 (io), 33 PTB1 (io), 34 PTB0 (io), 35 PTF3 (io), 36 PTF2 (io), 37 PTA7 (io), 38 PTA6 (io), 39 PTE4 (io), 40 VSS hidden, 41 VDD hidden, 42 PTF1 (io), 43 PTF0 (io), 44 PTD4 (io), 45 PTD3 (io), 46 PTD2 (io), 47 PTA3 (io), 48 PTA2 (io), 49 PTA1 (io), 50 PTA0 (io), 51 PTC7 (io), 52 PTC6 (io), 53 PTE3 (io), 54 PTE2 (io), 55 PTG3 (io), 56 PTG2 (io), 57 PTG1 (io), 58 PTG0 (io), 59 PTE1 (io), 60 PTE0 (io), 61 PTC5 (io), 62 PTC4 (io), 63 PTA5 (io), 64 PTA4 (io)

## MKE02Z64VQH4
designator *  value MKE02Z64VQH4
ki_keywords: NXP Kinetis Microcontroller; ki_description: 40 MHz, Entry-Level, High-Robustness, ESD/EMC performance Microcontroller, Cortex-M0+ core, 64kB Flash, 4kB RAM, TQFP-64; ki_fp_filters: TQFP*14x14mm*P0.8mm*; Footprint: Package_QFP:TQFP-64_14x14mm_P0.8mm; Supplier: http://cache.nxp.com/files/microcontrollers/doc/ref_manual/MKE02P64M40SF0RM.pdf
footprint TQFP-64_14x14mm_P0.8mm
pins: 1 PTD1 (io), 2 PTD0 (io), 3 PTH7 (io), 4 PTH6 (io), 5 PTE7 (io), 6 PTH2 (io), 7 VDD (power), 8 VDDA/VREFH (power), 9 VREFL (power), 10 VSS/VSSA (power), 11 PTB7 (io), 12 PTB6 (io), 13 VSS (power), 14 PTH1 (io), 15 PTH0 (io), 16 PTE6 (io), 17 PTE5 (io), 18 PTB5 (io), 19 PTB4 (io), 20 PTC3 (io), 21 PTC2 (io), 22 PTD7 (io), 23 PTD6 (io), 24 PTD5 (io), 25 PTC1 (io), 26 PTC0 (io), 27 PTF7 (io), 28 PTF6 (io), 29 PTF5 (io), 30 PTF4 (io), 31 PTB3 (io), 32 PTB2 (io), 33 PTB1 (io), 34 PTB0 (io), 35 PTF3 (io), 36 PTF2 (io), 37 PTA7 (io), 38 PTA6 (io), 39 PTE4 (io), 40 VSS hidden, 41 VDD hidden, 42 PTF1 (io), 43 PTF0 (io), 44 PTD4 (io), 45 PTD3 (io), 46 PTD2 (io), 47 PTA3 (io), 48 PTA2 (io), 49 PTA1 (io), 50 PTA0 (io), 51 PTC7 (io), 52 PTC6 (io), 53 PTE3 (io), 54 PTE2 (io), 55 PTG3 (io), 56 PTG2 (io), 57 PTG1 (io), 58 PTG0 (io), 59 PTE1 (io), 60 PTE0 (io), 61 PTC5 (io), 62 PTC4 (io), 63 PTA5 (io), 64 PTA4 (io)

## MKE16Z64VLF4
designator *  value MKE16Z64VLF4
ki_keywords: Kinetis KE16 ARM Cortex M0+; ki_description: Kinetis KE1xZ series, 48-MHz/32-bit ARM Cortex-M0+, 64 kB flash, 8 kB RAM, Mainstream, Touch (TSI) and CAN control, LQFP-48; ki_fp_filters: LQFP*7x7mm*P0.5mm*; Footprint: Package_QFP:LQFP-48_7x7mm_P0.5mm; Supplier: https://www.nxp.com/docs/en/data-sheet/KE1xZP48M48SF0.pdf
footprint LQFP-48_7x7mm_P0.5mm
pins: 1 PTD1 (io), 2 PTD0 (io), 3 PTE11 (io), 4 PTE10 (io), 5 PTE5 (io), 6 PTE4 (io), 7 VDD (power), 8 VDDA (power), 9 VREFH (power), 10 VSS/VREFL (power), 11 PTB7 (io), 12 PTB6 (io), 13 PTE3 (io), 14 PTE8 (io), 15 PTB5 (io), 16 PTB4 (io), 17 PTC3 (io), 18 PTC2 (io), 19 PTD7 (io), 20 PTD6 (io), 21 PTD5 (io), 22 PTC1 (io), 23 PTC0 (io), 24 PTB3 (io), 25 PTB2 (io), 26 PTB1 (io), 27 PTB0 (io), 28 PTA7 (io), 29 PTA6 (io), 30 VSS (power), 31 VDD (power), 32 PTD4 (io), 33 PTD3 (io), 34 PTD2 (io), 35 PTA3 (io), 36 PTA2 (io), 37 PTA1 (io), 38 PTA0 (io), 39 PTC7 (io), 40 PTC6 (io), 41 PTE6 (io), 42 PTE2 (io), 43 PTE1 (io), 44 PTE0 (io), 45 PTC5 (io), 46 PTC4 (io), 47 PTA5 (io), 48 PTA4 (io)

## MKL02Z8VFG4
designator *  value MKL02Z8VFG4
ki_keywords: Kinetis KL02 ARM Cortex M0+; ki_description: Kinetis KL02 series, 48-MHz/32-bit ARM Cortex-M0+, 8 kB flash, 1 kB SRAM, QFN-16; ki_fp_filters: QFN*1EP*3x3mm*P0.5mm*; Footprint: Package_DFN_QFN:QFN-16-1EP_3x3mm_P0.5mm_EP1.9x1.9mm; Supplier: http://www.nxp.com/docs/en/data-sheet/KL02P32M48SF0.pdf
footprint QFN-16-1EP_3x3mm_P0.5mm_EP1.9x1.9mm
pins: 1 VDD/VREFH (power), 2 VSS/VREFL (power), 3 PTA3 (io), 4 PTA4 (io), 5 PTA5 (io), 6 PTA6 (io), 7 PTA7/IRQ_4 (io), 8 PTB0/IRQ_5 (io), 9 PTB1/IRQ_6 (io), 10 PTB2/IRQ_7 (io), 11 PTB3/IRQ_10 (io), 12 PTB4/IRQ_11 (io), 13 PTB5/IRQ_12 (io), 14 PTA0/IRQ_0 (io), 15 PTA1/IRQ_1/LPTMR0_ALT1 (io), 16 PTA2 (io), 17 EPAD (power)

## MKL02Z16VFG4
designator *  value MKL02Z16VFG4
ki_keywords: Kinetis KL02 ARM Cortex M0+; ki_description: Kinetis KL02 series, 48-MHz/32-bit ARM Cortex-M0+, 16 kB flash, 2 kB SRAM, QFN-16; ki_fp_filters: QFN*1EP*3x3mm*P0.5mm*; Footprint: Package_DFN_QFN:QFN-16-1EP_3x3mm_P0.5mm_EP1.9x1.9mm; Supplier: http://www.nxp.com/docs/en/data-sheet/KL02P32M48SF0.pdf
footprint QFN-16-1EP_3x3mm_P0.5mm_EP1.9x1.9mm
pins: 1 VDD/VREFH (power), 2 VSS/VREFL (power), 3 PTA3 (io), 4 PTA4 (io), 5 PTA5 (io), 6 PTA6 (io), 7 PTA7/IRQ_4 (io), 8 PTB0/IRQ_5 (io), 9 PTB1/IRQ_6 (io), 10 PTB2/IRQ_7 (io), 11 PTB3/IRQ_10 (io), 12 PTB4/IRQ_11 (io), 13 PTB5/IRQ_12 (io), 14 PTA0/IRQ_0 (io), 15 PTA1/IRQ_1/LPTMR0_ALT1 (io), 16 PTA2 (io), 17 EPAD (power)

## MKL02Z16VFK4
designator *  value MKL02Z16VFK4
ki_keywords: Kinetis KL02 ARM Cortex M0+; ki_description: Kinetis KL02 series, 48-MHz/32-bit ARM Cortex-M0+, 16 kB flash, 2 kB SRAM, QFN-24; ki_fp_filters: QFN*4x4mm*P0.5mm*; Footprint: Package_DFN_QFN:QFN-24-1EP_4x4mm_P0.5mm_EP2.6x2.6mm; Supplier: http://www.nxp.com/docs/en/data-sheet/KL02P32M48SF0.pdf
footprint QFN-24-1EP_4x4mm_P0.5mm_EP2.6x2.6mm
pins: 1 PTB6/IRQ_2/LPTMR0_ALT3 (io), 2 PTB7/IRQ_3 (io), 3 VDD/VREFH (power), 4 VSS/VREFL (power), 5 PTA3 (io), 6 PTA4 (io), 7 PTA5 (io), 8 PTA6 (io), 9 PTB10 (io), 10 PTB11 (io), 11 PTA7/IRQ_4 (io), 12 PTB0/IRQ_5 (io), 13 PTB1/IRQ_6 (io), 14 PTB2/IRQ_7 (io), 15 PTA8 (io), 16 PTA9 (io), 17 PTB3/IRQ_10 (io), 18 PTB4/IRQ_11 (io), 19 PTB5/IRQ_12 (io), 20 PTA12/IRQ_13/LPTMR0_ALT2 (io), 21 PTB13 (io), 22 PTA0/IRQ_0 (io), 23 PTA1/IRQ_1/LPTMR0_ALT1 (io), 24 PTA2 (io), 25 EPAD (power)

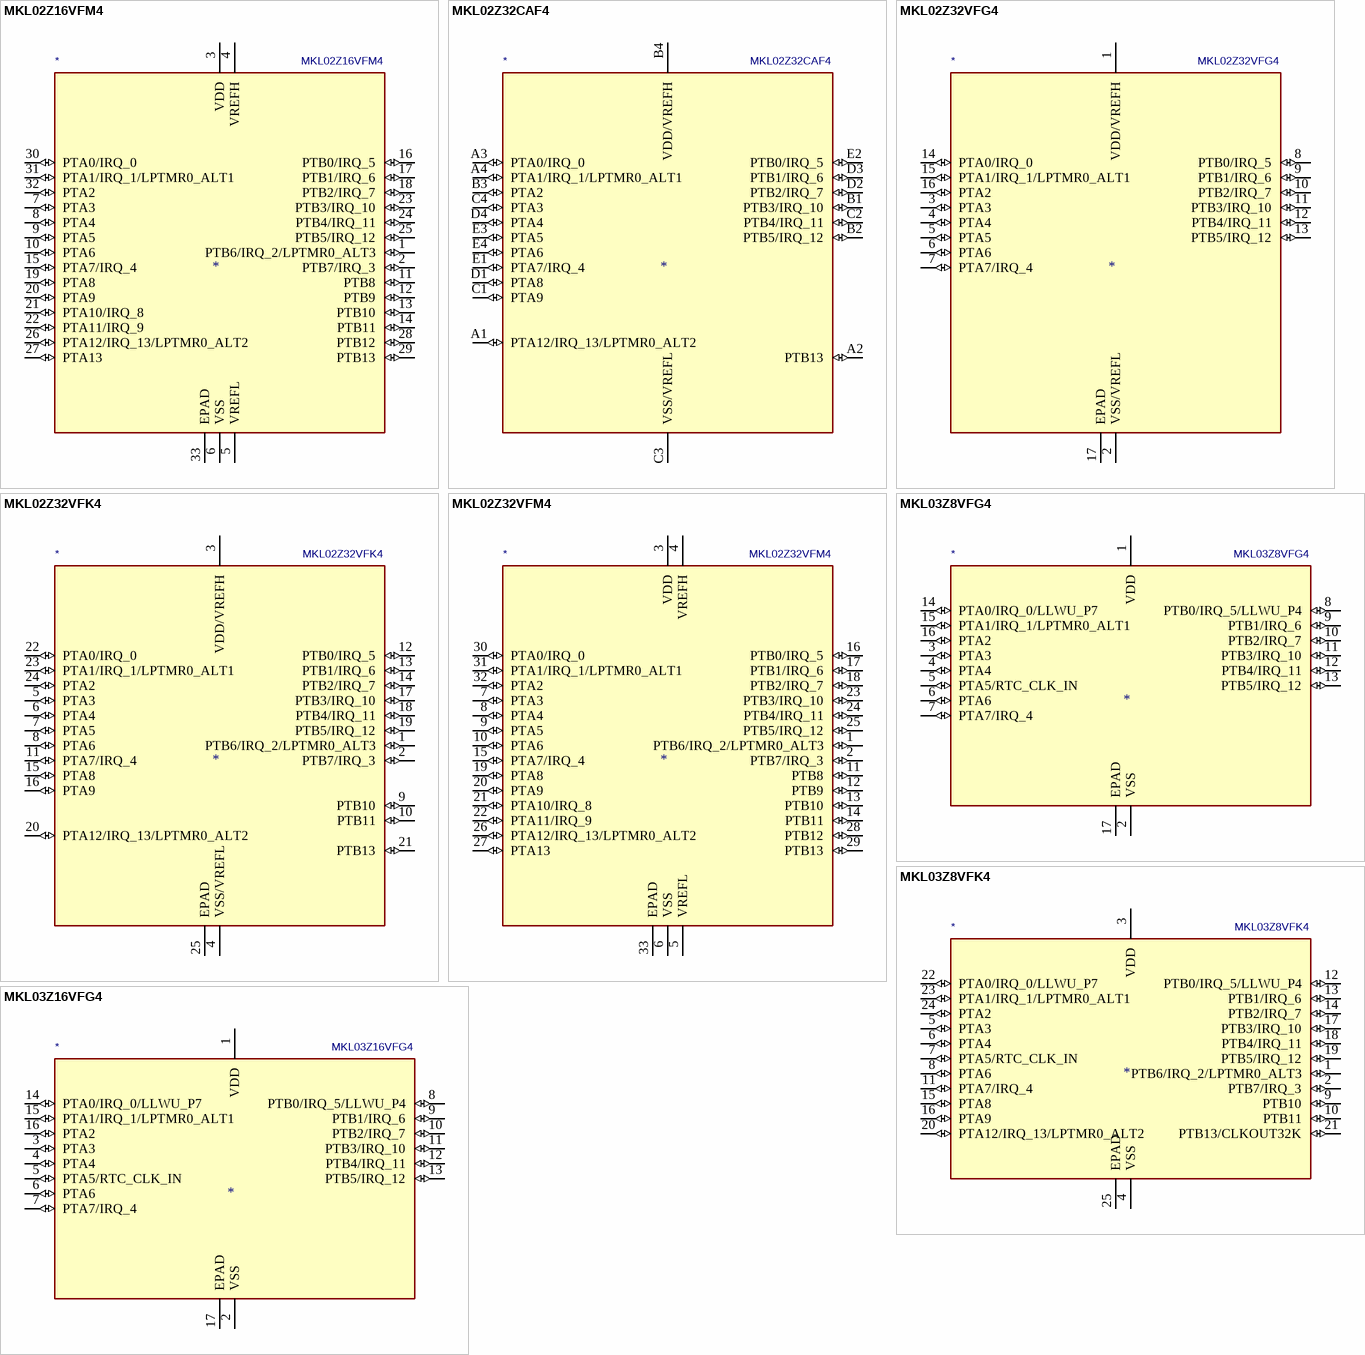
[diagram p4: symbols MKL02Z16VFM4 to MKL03Z16VFG4]

## MKL02Z16VFM4
designator *  value MKL02Z16VFM4
ki_keywords: Kinetis KL02 ARM Cortex M0+; ki_description: Kinetis KL02 series, 48-MHz/32-bit ARM Cortex-M0+, 16 kB flash, 2 kB SRAM, QFN-32; ki_fp_filters: QFN*5x5mm*P0.5mm*; Footprint: Package_DFN_QFN:QFN-32-1EP_5x5mm_P0.5mm_EP3.45x3.45mm; Supplier: http://www.nxp.com/docs/en/data-sheet/KL02P32M48SF0.pdf
footprint QFN-32-1EP_5x5mm_P0.5mm_EP3.45x3.45mm
pins: 1 PTB6/IRQ_2/LPTMR0_ALT3 (io), 2 PTB7/IRQ_3 (io), 3 VDD (power), 4 VREFH (power), 5 VREFL (power), 6 VSS (power), 7 PTA3 (io), 8 PTA4 (io), 9 PTA5 (io), 10 PTA6 (io), 11 PTB8 (io), 12 PTB9 (io), 13 PTB10 (io), 14 PTB11 (io), 15 PTA7/IRQ_4 (io), 16 PTB0/IRQ_5 (io), 17 PTB1/IRQ_6 (io), 18 PTB2/IRQ_7 (io), 19 PTA8 (io), 20 PTA9 (io), 21 PTA10/IRQ_8 (io), 22 PTA11/IRQ_9 (io), 23 PTB3/IRQ_10 (io), 24 PTB4/IRQ_11 (io), 25 PTB5/IRQ_12 (io), 26 PTA12/IRQ_13/LPTMR0_ALT2 (io), 27 PTA13 (io), 28 PTB12 (io), 29 PTB13 (io), 30 PTA0/IRQ_0 (io), 31 PTA1/IRQ_1/LPTMR0_ALT1 (io), 32 PTA2 (io), 33 EPAD (power)

## MKL02Z32CAF4
designator *  value MKL02Z32CAF4
ki_keywords: Kinetis KL02 ARM Cortex M0+; ki_description: Kinetis KL02 series, 48-MHz/32-bit ARM Cortex-M0+, 32 kB flash, 4 kB SRAM, WLCSP-20; ki_fp_filters: WLCSP*1.994x1.94mm*P0.4mm*; Footprint: Package_CSP:WLCSP-20_1.994x1.94mm_Layout4x5_P0.4mm; Supplier: http://www.nxp.com/docs/en/data-sheet/KL02P20M48SF0.pdf
footprint WLCSP-20_1.994x1.94mm_Layout4x5_P0.4mm
pins: A1 PTA12/IRQ_13/LPTMR0_ALT2 (io), A2 PTB13 (io), A3 PTA0/IRQ_0 (io), A4 PTA1/IRQ_1/LPTMR0_ALT1 (io), B1 PTB3/IRQ_10 (io), B2 PTB5/IRQ_12 (io), B3 PTA2 (io), B4 VDD/VREFH (power), C1 PTA9 (io), C2 PTB4/IRQ_11 (io), C3 VSS/VREFL (power), C4 PTA3 (io), D1 PTA8 (io), D2 PTB2/IRQ_7 (io), D3 PTB1/IRQ_6 (io), D4 PTA4 (io), E1 PTA7/IRQ_4 (io), E2 PTB0/IRQ_5 (io), E3 PTA5 (io), E4 PTA6 (io)

## MKL02Z32VFG4
designator *  value MKL02Z32VFG4
ki_keywords: Kinetis KL02 ARM Cortex M0+; ki_description: Kinetis KL02 series, 48-MHz/32-bit ARM Cortex-M0+, 32 kB flash, 4 kB SRAM, QFN-16; ki_fp_filters: QFN*1EP*3x3mm*P0.5mm*; Footprint: Package_DFN_QFN:QFN-16-1EP_3x3mm_P0.5mm_EP1.9x1.9mm; Supplier: http://www.nxp.com/docs/en/data-sheet/KL02P32M48SF0.pdf
footprint QFN-16-1EP_3x3mm_P0.5mm_EP1.9x1.9mm
pins: 1 VDD/VREFH (power), 2 VSS/VREFL (power), 3 PTA3 (io), 4 PTA4 (io), 5 PTA5 (io), 6 PTA6 (io), 7 PTA7/IRQ_4 (io), 8 PTB0/IRQ_5 (io), 9 PTB1/IRQ_6 (io), 10 PTB2/IRQ_7 (io), 11 PTB3/IRQ_10 (io), 12 PTB4/IRQ_11 (io), 13 PTB5/IRQ_12 (io), 14 PTA0/IRQ_0 (io), 15 PTA1/IRQ_1/LPTMR0_ALT1 (io), 16 PTA2 (io), 17 EPAD (power)

## MKL02Z32VFK4
designator *  value MKL02Z32VFK4
ki_keywords: Kinetis KL02 ARM Cortex M0+; ki_description: Kinetis KL02 series, 48-MHz/32-bit ARM Cortex-M0+, 32 kB flash, 4 kB SRAM, QFN-24; ki_fp_filters: QFN*4x4mm*P0.5mm*; Footprint: Package_DFN_QFN:QFN-24-1EP_4x4mm_P0.5mm_EP2.6x2.6mm; Supplier: http://www.nxp.com/docs/en/data-sheet/KL02P32M48SF0.pdf
footprint QFN-24-1EP_4x4mm_P0.5mm_EP2.6x2.6mm
pins: 1 PTB6/IRQ_2/LPTMR0_ALT3 (io), 2 PTB7/IRQ_3 (io), 3 VDD/VREFH (power), 4 VSS/VREFL (power), 5 PTA3 (io), 6 PTA4 (io), 7 PTA5 (io), 8 PTA6 (io), 9 PTB10 (io), 10 PTB11 (io), 11 PTA7/IRQ_4 (io), 12 PTB0/IRQ_5 (io), 13 PTB1/IRQ_6 (io), 14 PTB2/IRQ_7 (io), 15 PTA8 (io), 16 PTA9 (io), 17 PTB3/IRQ_10 (io), 18 PTB4/IRQ_11 (io), 19 PTB5/IRQ_12 (io), 20 PTA12/IRQ_13/LPTMR0_ALT2 (io), 21 PTB13 (io), 22 PTA0/IRQ_0 (io), 23 PTA1/IRQ_1/LPTMR0_ALT1 (io), 24 PTA2 (io), 25 EPAD (power)

## MKL02Z32VFM4
designator *  value MKL02Z32VFM4
ki_keywords: Kinetis KL02 ARM Cortex M0+; ki_description: Kinetis KL02 series, 48-MHz/32-bit ARM Cortex-M0+, 32 kB flash, 4 kB SRAM, QFN-32; ki_fp_filters: QFN*5x5mm*P0.5mm*; Footprint: Package_DFN_QFN:QFN-32-1EP_5x5mm_P0.5mm_EP3.45x3.45mm; Supplier: http://www.nxp.com/docs/en/data-sheet/KL02P32M48SF0.pdf
footprint QFN-32-1EP_5x5mm_P0.5mm_EP3.45x3.45mm
pins: 1 PTB6/IRQ_2/LPTMR0_ALT3 (io), 2 PTB7/IRQ_3 (io), 3 VDD (power), 4 VREFH (power), 5 VREFL (power), 6 VSS (power), 7 PTA3 (io), 8 PTA4 (io), 9 PTA5 (io), 10 PTA6 (io), 11 PTB8 (io), 12 PTB9 (io), 13 PTB10 (io), 14 PTB11 (io), 15 PTA7/IRQ_4 (io), 16 PTB0/IRQ_5 (io), 17 PTB1/IRQ_6 (io), 18 PTB2/IRQ_7 (io), 19 PTA8 (io), 20 PTA9 (io), 21 PTA10/IRQ_8 (io), 22 PTA11/IRQ_9 (io), 23 PTB3/IRQ_10 (io), 24 PTB4/IRQ_11 (io), 25 PTB5/IRQ_12 (io), 26 PTA12/IRQ_13/LPTMR0_ALT2 (io), 27 PTA13 (io), 28 PTB12 (io), 29 PTB13 (io), 30 PTA0/IRQ_0 (io), 31 PTA1/IRQ_1/LPTMR0_ALT1 (io), 32 PTA2 (io), 33 EPAD (power)

## MKL03Z8VFG4
designator *  value MKL03Z8VFG4
ki_keywords: Kinetis KL03 ARM Cortex M0+; ki_description: Kinetis KL03 series, 48-MHz/32-bit ARM Cortex-M0+, 8 kB flash, 2 kB SRAM, QFN-16; ki_fp_filters: QFN*1EP*3x3mm*P0.5mm*; Footprint: Package_DFN_QFN:QFN-16-1EP_3x3mm_P0.5mm_EP1.9x1.9mm; Supplier: http://www.nxp.com/docs/en/data-sheet/KL03P24M48SF0.pdf
footprint QFN-16-1EP_3x3mm_P0.5mm_EP1.9x1.9mm
pins: 1 VDD (power), 2 VSS (power), 3 PTA3 (io), 4 PTA4 (io), 5 PTA5/RTC_CLK_IN (io), 6 PTA6 (io), 7 PTA7/IRQ_4 (io), 8 PTB0/IRQ_5/LLWU_P4 (io), 9 PTB1/IRQ_6 (io), 10 PTB2/IRQ_7 (io), 11 PTB3/IRQ_10 (io), 12 PTB4/IRQ_11 (io), 13 PTB5/IRQ_12 (io), 14 PTA0/IRQ_0/LLWU_P7 (io), 15 PTA1/IRQ_1/LPTMR0_ALT1 (io), 16 PTA2 (io), 17 EPAD (power)

## MKL03Z8VFK4
designator *  value MKL03Z8VFK4
ki_keywords: Kinetis KL03 ARM Cortex M0+; ki_description: Kinetis KL03 series, 48-MHz/32-bit ARM Cortex-M0+, 8 kB flash, 2 kB SRAM, QFN-24; ki_fp_filters: QFN*4x4mm*P0.5mm*; Footprint: Package_DFN_QFN:QFN-24-1EP_4x4mm_P0.5mm_EP2.6x2.6mm; Supplier: http://www.nxp.com/docs/en/data-sheet/KL03P24M48SF0.pdf
footprint QFN-24-1EP_4x4mm_P0.5mm_EP2.6x2.6mm
pins: 1 PTB6/IRQ_2/LPTMR0_ALT3 (io), 2 PTB7/IRQ_3 (io), 3 VDD (power), 4 VSS (power), 5 PTA3 (io), 6 PTA4 (io), 7 PTA5/RTC_CLK_IN (io), 8 PTA6 (io), 9 PTB10 (io), 10 PTB11 (io), 11 PTA7/IRQ_4 (io), 12 PTB0/IRQ_5/LLWU_P4 (io), 13 PTB1/IRQ_6 (io), 14 PTB2/IRQ_7 (io), 15 PTA8 (io), 16 PTA9 (io), 17 PTB3/IRQ_10 (io), 18 PTB4/IRQ_11 (io), 19 PTB5/IRQ_12 (io), 20 PTA12/IRQ_13/LPTMR0_ALT2 (io), 21 PTB13/CLKOUT32K (io), 22 PTA0/IRQ_0/LLWU_P7 (io), 23 PTA1/IRQ_1/LPTMR0_ALT1 (io), 24 PTA2 (io), 25 EPAD (power)

## MKL03Z16VFG4
designator *  value MKL03Z16VFG4
ki_keywords: Kinetis KL03 ARM Cortex M0+; ki_description: Kinetis KL03 series, 48-MHz/32-bit ARM Cortex-M0+, 16 kB flash, 2 kB SRAM, QFN-16; ki_fp_filters: QFN*1EP*3x3mm*P0.5mm*; Footprint: Package_DFN_QFN:QFN-16-1EP_3x3mm_P0.5mm_EP1.9x1.9mm; Supplier: http://www.nxp.com/docs/en/data-sheet/KL03P24M48SF0.pdf
footprint QFN-16-1EP_3x3mm_P0.5mm_EP1.9x1.9mm
pins: 1 VDD (power), 2 VSS (power), 3 PTA3 (io), 4 PTA4 (io), 5 PTA5/RTC_CLK_IN (io), 6 PTA6 (io), 7 PTA7/IRQ_4 (io), 8 PTB0/IRQ_5/LLWU_P4 (io), 9 PTB1/IRQ_6 (io), 10 PTB2/IRQ_7 (io), 11 PTB3/IRQ_10 (io), 12 PTB4/IRQ_11 (io), 13 PTB5/IRQ_12 (io), 14 PTA0/IRQ_0/LLWU_P7 (io), 15 PTA1/IRQ_1/LPTMR0_ALT1 (io), 16 PTA2 (io), 17 EPAD (power)

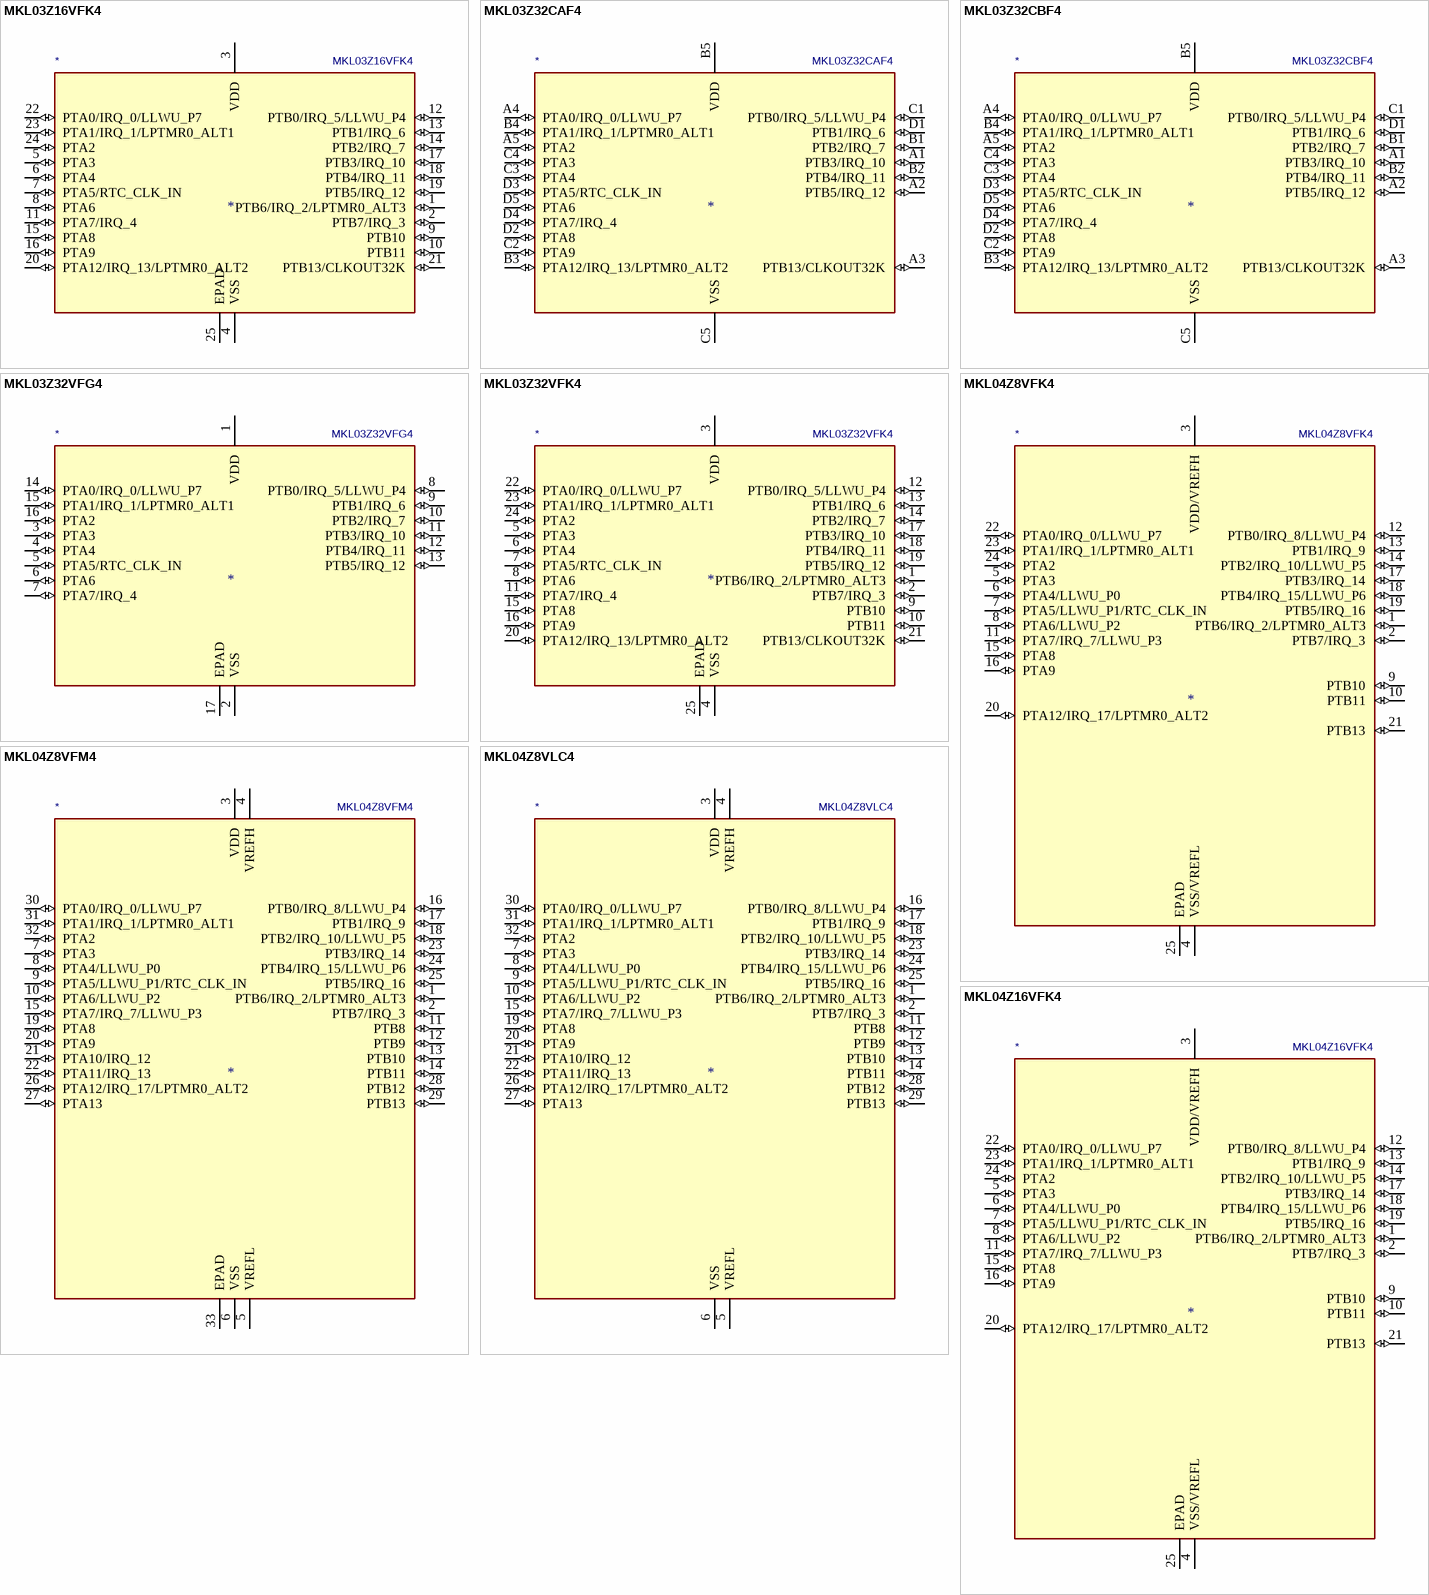
[diagram p5: symbols MKL03Z16VFK4 to MKL04Z16VFK4]

## MKL03Z16VFK4
designator *  value MKL03Z16VFK4
ki_keywords: Kinetis KL03 ARM Cortex M0+; ki_description: Kinetis KL03 series, 48-MHz/32-bit ARM Cortex-M0+, 16 kB flash, 2 kB SRAM, QFN-24; ki_fp_filters: QFN*4x4mm*P0.5mm*; Footprint: Package_DFN_QFN:QFN-24-1EP_4x4mm_P0.5mm_EP2.6x2.6mm; Supplier: http://www.nxp.com/docs/en/data-sheet/KL03P24M48SF0.pdf
footprint QFN-24-1EP_4x4mm_P0.5mm_EP2.6x2.6mm
pins: 1 PTB6/IRQ_2/LPTMR0_ALT3 (io), 2 PTB7/IRQ_3 (io), 3 VDD (power), 4 VSS (power), 5 PTA3 (io), 6 PTA4 (io), 7 PTA5/RTC_CLK_IN (io), 8 PTA6 (io), 9 PTB10 (io), 10 PTB11 (io), 11 PTA7/IRQ_4 (io), 12 PTB0/IRQ_5/LLWU_P4 (io), 13 PTB1/IRQ_6 (io), 14 PTB2/IRQ_7 (io), 15 PTA8 (io), 16 PTA9 (io), 17 PTB3/IRQ_10 (io), 18 PTB4/IRQ_11 (io), 19 PTB5/IRQ_12 (io), 20 PTA12/IRQ_13/LPTMR0_ALT2 (io), 21 PTB13/CLKOUT32K (io), 22 PTA0/IRQ_0/LLWU_P7 (io), 23 PTA1/IRQ_1/LPTMR0_ALT1 (io), 24 PTA2 (io), 25 EPAD (power)

## MKL03Z32CAF4
designator *  value MKL03Z32CAF4
ki_keywords: Kinetis KL03 ARM Cortex M0+; ki_description: Kinetis KL03 series, 48-MHz/32-bit ARM Cortex-M0+, 32 kB flash, 2 kB SRAM, WLCSP-20; ki_fp_filters: WLCSP*1.994x1.609mm*P0.4mm*; Footprint: Package_CSP:WLCSP-20_1.994x1.609mm_Layout5x4_P0.4mm; Supplier: http://www.nxp.com/docs/en/data-sheet/KL03P24M48SF0.pdf
footprint WLCSP-20_1.994x1.609mm_Layout5x4_P0.4mm
pins: A1 PTB3/IRQ_10 (io), A2 PTB5/IRQ_12 (io), A3 PTB13/CLKOUT32K (io), A4 PTA0/IRQ_0/LLWU_P7 (io), A5 PTA2 (io), B1 PTB2/IRQ_7 (io), B2 PTB4/IRQ_11 (io), B3 PTA12/IRQ_13/LPTMR0_ALT2 (io), B4 PTA1/IRQ_1/LPTMR0_ALT1 (io), B5 VDD (power), C1 PTB0/IRQ_5/LLWU_P4 (io), C2 PTA9 (io), C3 PTA4 (io), C4 PTA3 (io), C5 VSS (power), D1 PTB1/IRQ_6 (io), D2 PTA8 (io), D3 PTA5/RTC_CLK_IN (io), D4 PTA7/IRQ_4 (io), D5 PTA6 (io)

## MKL03Z32CBF4
designator *  value MKL03Z32CBF4
ki_keywords: Kinetis KL03 ARM Cortex M0+; ki_description: Kinetis KL03 series, 48-MHz/32-bit ARM Cortex-M0+, 32 kB flash, 2 kB SRAM, WLCSP-20; ki_fp_filters: WLCSP*1.994x1.609mm*P0.4mm*; Footprint: Package_CSP:WLCSP-20_1.994x1.609mm_Layout5x4_P0.4mm; Supplier: http://www.nxp.com/docs/en/data-sheet/KL03P24M48SF0.pdf
footprint WLCSP-20_1.994x1.609mm_Layout5x4_P0.4mm
pins: A1 PTB3/IRQ_10 (io), A2 PTB5/IRQ_12 (io), A3 PTB13/CLKOUT32K (io), A4 PTA0/IRQ_0/LLWU_P7 (io), A5 PTA2 (io), B1 PTB2/IRQ_7 (io), B2 PTB4/IRQ_11 (io), B3 PTA12/IRQ_13/LPTMR0_ALT2 (io), B4 PTA1/IRQ_1/LPTMR0_ALT1 (io), B5 VDD (power), C1 PTB0/IRQ_5/LLWU_P4 (io), C2 PTA9 (io), C3 PTA4 (io), C4 PTA3 (io), C5 VSS (power), D1 PTB1/IRQ_6 (io), D2 PTA8 (io), D3 PTA5/RTC_CLK_IN (io), D4 PTA7/IRQ_4 (io), D5 PTA6 (io)

## MKL03Z32VFG4
designator *  value MKL03Z32VFG4
ki_keywords: Kinetis KL03 ARM Cortex M0+; ki_description: Kinetis KL03 series, 48-MHz/32-bit ARM Cortex-M0+, 32 kB flash, 2 kB SRAM, QFN-16; ki_fp_filters: QFN*1EP*3x3mm*P0.5mm*; Footprint: Package_DFN_QFN:QFN-16-1EP_3x3mm_P0.5mm_EP1.9x1.9mm; Supplier: http://www.nxp.com/docs/en/data-sheet/KL03P24M48SF0.pdf
footprint QFN-16-1EP_3x3mm_P0.5mm_EP1.9x1.9mm
pins: 1 VDD (power), 2 VSS (power), 3 PTA3 (io), 4 PTA4 (io), 5 PTA5/RTC_CLK_IN (io), 6 PTA6 (io), 7 PTA7/IRQ_4 (io), 8 PTB0/IRQ_5/LLWU_P4 (io), 9 PTB1/IRQ_6 (io), 10 PTB2/IRQ_7 (io), 11 PTB3/IRQ_10 (io), 12 PTB4/IRQ_11 (io), 13 PTB5/IRQ_12 (io), 14 PTA0/IRQ_0/LLWU_P7 (io), 15 PTA1/IRQ_1/LPTMR0_ALT1 (io), 16 PTA2 (io), 17 EPAD (power)

## MKL03Z32VFK4
designator *  value MKL03Z32VFK4
ki_keywords: Kinetis KL03 ARM Cortex M0+; ki_description: Kinetis KL03 series, 48-MHz/32-bit ARM Cortex-M0+, 32 kB flash, 2 kB SRAM, QFN-24; ki_fp_filters: QFN*4x4mm*P0.5mm*; Footprint: Package_DFN_QFN:QFN-24-1EP_4x4mm_P0.5mm_EP2.6x2.6mm; Supplier: http://www.nxp.com/docs/en/data-sheet/KL03P24M48SF0.pdf
footprint QFN-24-1EP_4x4mm_P0.5mm_EP2.6x2.6mm
pins: 1 PTB6/IRQ_2/LPTMR0_ALT3 (io), 2 PTB7/IRQ_3 (io), 3 VDD (power), 4 VSS (power), 5 PTA3 (io), 6 PTA4 (io), 7 PTA5/RTC_CLK_IN (io), 8 PTA6 (io), 9 PTB10 (io), 10 PTB11 (io), 11 PTA7/IRQ_4 (io), 12 PTB0/IRQ_5/LLWU_P4 (io), 13 PTB1/IRQ_6 (io), 14 PTB2/IRQ_7 (io), 15 PTA8 (io), 16 PTA9 (io), 17 PTB3/IRQ_10 (io), 18 PTB4/IRQ_11 (io), 19 PTB5/IRQ_12 (io), 20 PTA12/IRQ_13/LPTMR0_ALT2 (io), 21 PTB13/CLKOUT32K (io), 22 PTA0/IRQ_0/LLWU_P7 (io), 23 PTA1/IRQ_1/LPTMR0_ALT1 (io), 24 PTA2 (io), 25 EPAD (power)

## MKL04Z8VFK4
designator *  value MKL04Z8VFK4
ki_keywords: Kinetis KL04 ARM Cortex M0+; ki_description: Kinetis KL04 series, 48-MHz/32-bit ARM Cortex-M0+, 8 kB flash, 1 kB SRAM, QFN-24; ki_fp_filters: QFN*4x4mm*P0.5mm*; Footprint: Package_DFN_QFN:QFN-24-1EP_4x4mm_P0.5mm_EP2.6x2.6mm; Supplier: http://www.nxp.com/docs/en/data-sheet/KL04P48M48SF1.pdf
footprint QFN-24-1EP_4x4mm_P0.5mm_EP2.6x2.6mm
pins: 1 PTB6/IRQ_2/LPTMR0_ALT3 (io), 2 PTB7/IRQ_3 (io), 3 VDD/VREFH (power), 4 VSS/VREFL (power), 5 PTA3 (io), 6 PTA4/LLWU_P0 (io), 7 PTA5/LLWU_P1/RTC_CLK_IN (io), 8 PTA6/LLWU_P2 (io), 9 PTB10 (io), 10 PTB11 (io), 11 PTA7/IRQ_7/LLWU_P3 (io), 12 PTB0/IRQ_8/LLWU_P4 (io), 13 PTB1/IRQ_9 (io), 14 PTB2/IRQ_10/LLWU_P5 (io), 15 PTA8 (io), 16 PTA9 (io), 17 PTB3/IRQ_14 (io), 18 PTB4/IRQ_15/LLWU_P6 (io), 19 PTB5/IRQ_16 (io), 20 PTA12/IRQ_17/LPTMR0_ALT2 (io), 21 PTB13 (io), 22 PTA0/IRQ_0/LLWU_P7 (io), 23 PTA1/IRQ_1/LPTMR0_ALT1 (io), 24 PTA2 (io), 25 EPAD (power)

## MKL04Z8VFM4
designator *  value MKL04Z8VFM4
ki_keywords: Kinetis KL04 ARM Cortex M0+; ki_description: Kinetis KL04 series, 48-MHz/32-bit ARM Cortex-M0+, 8 kB flash, 1 kB SRAM, QFN-32; ki_fp_filters: QFN*5x5mm*P0.5mm*; Footprint: Package_DFN_QFN:QFN-32-1EP_5x5mm_P0.5mm_EP3.45x3.45mm; Supplier: http://www.nxp.com/docs/en/data-sheet/KL04P48M48SF1.pdf
footprint QFN-32-1EP_5x5mm_P0.5mm_EP3.45x3.45mm
pins: 1 PTB6/IRQ_2/LPTMR0_ALT3 (io), 2 PTB7/IRQ_3 (io), 3 VDD (power), 4 VREFH (power), 5 VREFL (power), 6 VSS (power), 7 PTA3 (io), 8 PTA4/LLWU_P0 (io), 9 PTA5/LLWU_P1/RTC_CLK_IN (io), 10 PTA6/LLWU_P2 (io), 11 PTB8 (io), 12 PTB9 (io), 13 PTB10 (io), 14 PTB11 (io), 15 PTA7/IRQ_7/LLWU_P3 (io), 16 PTB0/IRQ_8/LLWU_P4 (io), 17 PTB1/IRQ_9 (io), 18 PTB2/IRQ_10/LLWU_P5 (io), 19 PTA8 (io), 20 PTA9 (io), 21 PTA10/IRQ_12 (io), 22 PTA11/IRQ_13 (io), 23 PTB3/IRQ_14 (io), 24 PTB4/IRQ_15/LLWU_P6 (io), 25 PTB5/IRQ_16 (io), 26 PTA12/IRQ_17/LPTMR0_ALT2 (io), 27 PTA13 (io), 28 PTB12 (io), 29 PTB13 (io), 30 PTA0/IRQ_0/LLWU_P7 (io), 31 PTA1/IRQ_1/LPTMR0_ALT1 (io), 32 PTA2 (io), 33 EPAD (power)

## MKL04Z8VLC4
designator *  value MKL04Z8VLC4
ki_keywords: Kinetis KL04 ARM Cortex M0+; ki_description: Kinetis KL04 series, 48-MHz/32-bit ARM Cortex-M0+, 8 kB flash, 1 kB SRAM, LQFP-32; ki_fp_filters: LQFP*7x7mm*P0.8mm*; Footprint: Package_QFP:LQFP-32_7x7mm_P0.8mm; Supplier: http://www.nxp.com/docs/en/data-sheet/KL04P48M48SF1.pdf
footprint LQFP-32_7x7mm_P0.8mm
pins: 1 PTB6/IRQ_2/LPTMR0_ALT3 (io), 2 PTB7/IRQ_3 (io), 3 VDD (power), 4 VREFH (power), 5 VREFL (power), 6 VSS (power), 7 PTA3 (io), 8 PTA4/LLWU_P0 (io), 9 PTA5/LLWU_P1/RTC_CLK_IN (io), 10 PTA6/LLWU_P2 (io), 11 PTB8 (io), 12 PTB9 (io), 13 PTB10 (io), 14 PTB11 (io), 15 PTA7/IRQ_7/LLWU_P3 (io), 16 PTB0/IRQ_8/LLWU_P4 (io), 17 PTB1/IRQ_9 (io), 18 PTB2/IRQ_10/LLWU_P5 (io), 19 PTA8 (io), 20 PTA9 (io), 21 PTA10/IRQ_12 (io), 22 PTA11/IRQ_13 (io), 23 PTB3/IRQ_14 (io), 24 PTB4/IRQ_15/LLWU_P6 (io), 25 PTB5/IRQ_16 (io), 26 PTA12/IRQ_17/LPTMR0_ALT2 (io), 27 PTA13 (io), 28 PTB12 (io), 29 PTB13 (io), 30 PTA0/IRQ_0/LLWU_P7 (io), 31 PTA1/IRQ_1/LPTMR0_ALT1 (io), 32 PTA2 (io)

## MKL04Z16VFK4
designator *  value MKL04Z16VFK4
ki_keywords: Kinetis KL04 ARM Cortex M0+; ki_description: Kinetis KL04 series, 48-MHz/32-bit ARM Cortex-M0+, 16 kB flash, 2 kB SRAM, QFN-24; ki_fp_filters: QFN*4x4mm*P0.5mm*; Footprint: Package_DFN_QFN:QFN-24-1EP_4x4mm_P0.5mm_EP2.6x2.6mm; Supplier: http://www.nxp.com/docs/en/data-sheet/KL04P48M48SF1.pdf
footprint QFN-24-1EP_4x4mm_P0.5mm_EP2.6x2.6mm
pins: 1 PTB6/IRQ_2/LPTMR0_ALT3 (io), 2 PTB7/IRQ_3 (io), 3 VDD/VREFH (power), 4 VSS/VREFL (power), 5 PTA3 (io), 6 PTA4/LLWU_P0 (io), 7 PTA5/LLWU_P1/RTC_CLK_IN (io), 8 PTA6/LLWU_P2 (io), 9 PTB10 (io), 10 PTB11 (io), 11 PTA7/IRQ_7/LLWU_P3 (io), 12 PTB0/IRQ_8/LLWU_P4 (io), 13 PTB1/IRQ_9 (io), 14 PTB2/IRQ_10/LLWU_P5 (io), 15 PTA8 (io), 16 PTA9 (io), 17 PTB3/IRQ_14 (io), 18 PTB4/IRQ_15/LLWU_P6 (io), 19 PTB5/IRQ_16 (io), 20 PTA12/IRQ_17/LPTMR0_ALT2 (io), 21 PTB13 (io), 22 PTA0/IRQ_0/LLWU_P7 (io), 23 PTA1/IRQ_1/LPTMR0_ALT1 (io), 24 PTA2 (io), 25 EPAD (power)

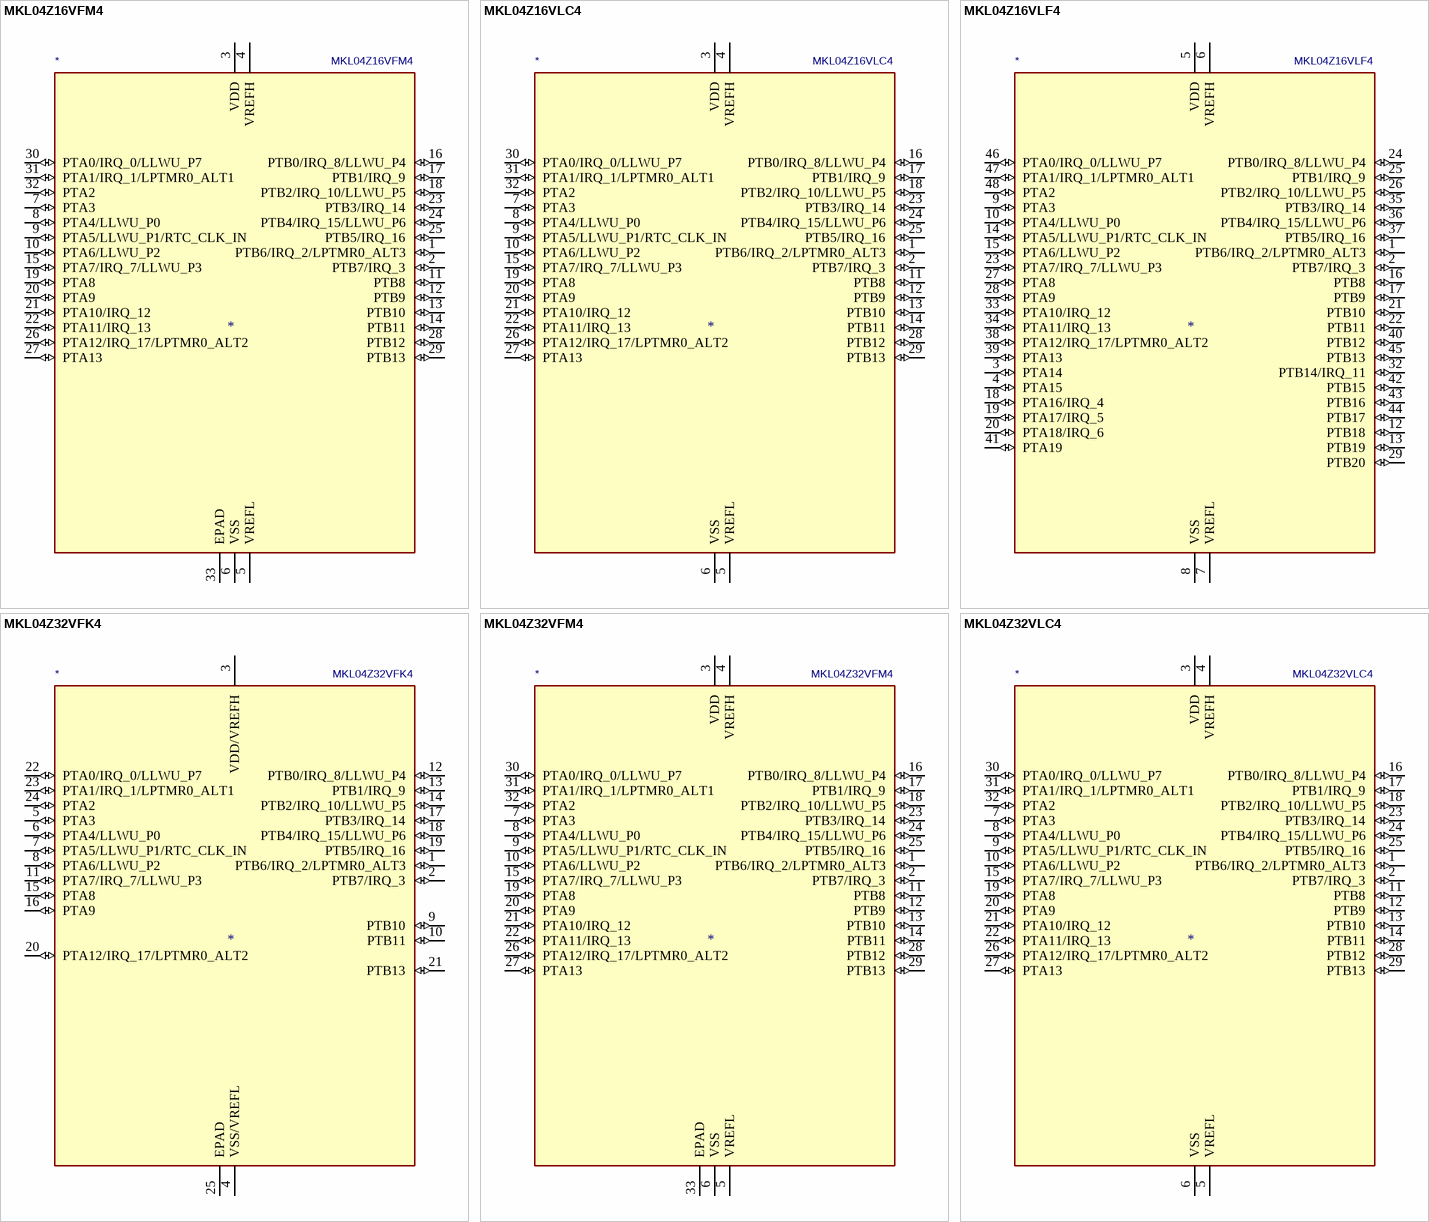
[diagram p6: symbols MKL04Z16VFM4 to MKL04Z32VLC4]

## MKL04Z16VFM4
designator *  value MKL04Z16VFM4
ki_keywords: Kinetis KL04 ARM Cortex M0+; ki_description: Kinetis KL04 series, 48-MHz/32-bit ARM Cortex-M0+, 16 kB flash, 2 kB SRAM, QFN-32; ki_fp_filters: QFN*5x5mm*P0.5mm*; Footprint: Package_DFN_QFN:QFN-32-1EP_5x5mm_P0.5mm_EP3.45x3.45mm; Supplier: http://www.nxp.com/docs/en/data-sheet/KL04P48M48SF1.pdf
footprint QFN-32-1EP_5x5mm_P0.5mm_EP3.45x3.45mm
pins: 1 PTB6/IRQ_2/LPTMR0_ALT3 (io), 2 PTB7/IRQ_3 (io), 3 VDD (power), 4 VREFH (power), 5 VREFL (power), 6 VSS (power), 7 PTA3 (io), 8 PTA4/LLWU_P0 (io), 9 PTA5/LLWU_P1/RTC_CLK_IN (io), 10 PTA6/LLWU_P2 (io), 11 PTB8 (io), 12 PTB9 (io), 13 PTB10 (io), 14 PTB11 (io), 15 PTA7/IRQ_7/LLWU_P3 (io), 16 PTB0/IRQ_8/LLWU_P4 (io), 17 PTB1/IRQ_9 (io), 18 PTB2/IRQ_10/LLWU_P5 (io), 19 PTA8 (io), 20 PTA9 (io), 21 PTA10/IRQ_12 (io), 22 PTA11/IRQ_13 (io), 23 PTB3/IRQ_14 (io), 24 PTB4/IRQ_15/LLWU_P6 (io), 25 PTB5/IRQ_16 (io), 26 PTA12/IRQ_17/LPTMR0_ALT2 (io), 27 PTA13 (io), 28 PTB12 (io), 29 PTB13 (io), 30 PTA0/IRQ_0/LLWU_P7 (io), 31 PTA1/IRQ_1/LPTMR0_ALT1 (io), 32 PTA2 (io), 33 EPAD (power)

## MKL04Z16VLC4
designator *  value MKL04Z16VLC4
ki_keywords: Kinetis KL04 ARM Cortex M0+; ki_description: Kinetis KL04 series, 48-MHz/32-bit ARM Cortex-M0+, 16 kB flash, 2 kB SRAM, LQFP-32; ki_fp_filters: LQFP*7x7mm*P0.8mm*; Footprint: Package_QFP:LQFP-32_7x7mm_P0.8mm; Supplier: http://www.nxp.com/docs/en/data-sheet/KL04P48M48SF1.pdf
footprint LQFP-32_7x7mm_P0.8mm
pins: 1 PTB6/IRQ_2/LPTMR0_ALT3 (io), 2 PTB7/IRQ_3 (io), 3 VDD (power), 4 VREFH (power), 5 VREFL (power), 6 VSS (power), 7 PTA3 (io), 8 PTA4/LLWU_P0 (io), 9 PTA5/LLWU_P1/RTC_CLK_IN (io), 10 PTA6/LLWU_P2 (io), 11 PTB8 (io), 12 PTB9 (io), 13 PTB10 (io), 14 PTB11 (io), 15 PTA7/IRQ_7/LLWU_P3 (io), 16 PTB0/IRQ_8/LLWU_P4 (io), 17 PTB1/IRQ_9 (io), 18 PTB2/IRQ_10/LLWU_P5 (io), 19 PTA8 (io), 20 PTA9 (io), 21 PTA10/IRQ_12 (io), 22 PTA11/IRQ_13 (io), 23 PTB3/IRQ_14 (io), 24 PTB4/IRQ_15/LLWU_P6 (io), 25 PTB5/IRQ_16 (io), 26 PTA12/IRQ_17/LPTMR0_ALT2 (io), 27 PTA13 (io), 28 PTB12 (io), 29 PTB13 (io), 30 PTA0/IRQ_0/LLWU_P7 (io), 31 PTA1/IRQ_1/LPTMR0_ALT1 (io), 32 PTA2 (io)

## MKL04Z16VLF4
designator *  value MKL04Z16VLF4
ki_keywords: Kinetis KL04 ARM Cortex M0+; ki_description: Kinetis KL04 series, 48-MHz/32-bit ARM Cortex-M0+, 16 kB flash, 2 kB SRAM, LQFP-48; ki_fp_filters: LQFP*7x7mm*P0.5mm*; Footprint: Package_QFP:LQFP-48_7x7mm_P0.5mm; Supplier: http://www.nxp.com/docs/en/data-sheet/KL04P48M48SF1.pdf
footprint LQFP-48_7x7mm_P0.5mm
pins: 1 PTB6/IRQ_2/LPTMR0_ALT3 (io), 2 PTB7/IRQ_3 (io), 3 PTA14 (io), 4 PTA15 (io), 5 VDD (power), 6 VREFH (power), 7 VREFL (power), 8 VSS (power), 9 PTA3 (io), 10 PTA4/LLWU_P0 (io), 11 VSS hidden, 12 PTB18 (io), 13 PTB19 (io), 14 PTA5/LLWU_P1/RTC_CLK_IN (io), 15 PTA6/LLWU_P2 (io), 16 PTB8 (io), 17 PTB9 (io), 18 PTA16/IRQ_4 (io), 19 PTA17/IRQ_5 (io), 20 PTA18/IRQ_6 (io), 21 PTB10 (io), 22 PTB11 (io), 23 PTA7/IRQ_7/LLWU_P3 (io), 24 PTB0/IRQ_8/LLWU_P4 (io), 25 PTB1/IRQ_9 (io), 26 PTB2/IRQ_10/LLWU_P5 (io), 27 PTA8 (io), 28 PTA9 (io), 29 PTB20 (io), 30 VSS hidden, 31 VDD hidden, 32 PTB14/IRQ_11 (io), 33 PTA10/IRQ_12 (io), 34 PTA11/IRQ_13 (io), 35 PTB3/IRQ_14 (io), 36 PTB4/IRQ_15/LLWU_P6 (io), 37 PTB5/IRQ_16 (io), 38 PTA12/IRQ_17/LPTMR0_ALT2 (io), 39 PTA13 (io), 40 PTB12 (io), 41 PTA19 (io), 42 PTB15 (io), 43 PTB16 (io), 44 PTB17 (io), 45 PTB13 (io), 46 PTA0/IRQ_0/LLWU_P7 (io), 47 PTA1/IRQ_1/LPTMR0_ALT1 (io), 48 PTA2 (io)